# Altium schematic symbol library ubloxLib.SchLib: 110 symbols (part 3 of 4)
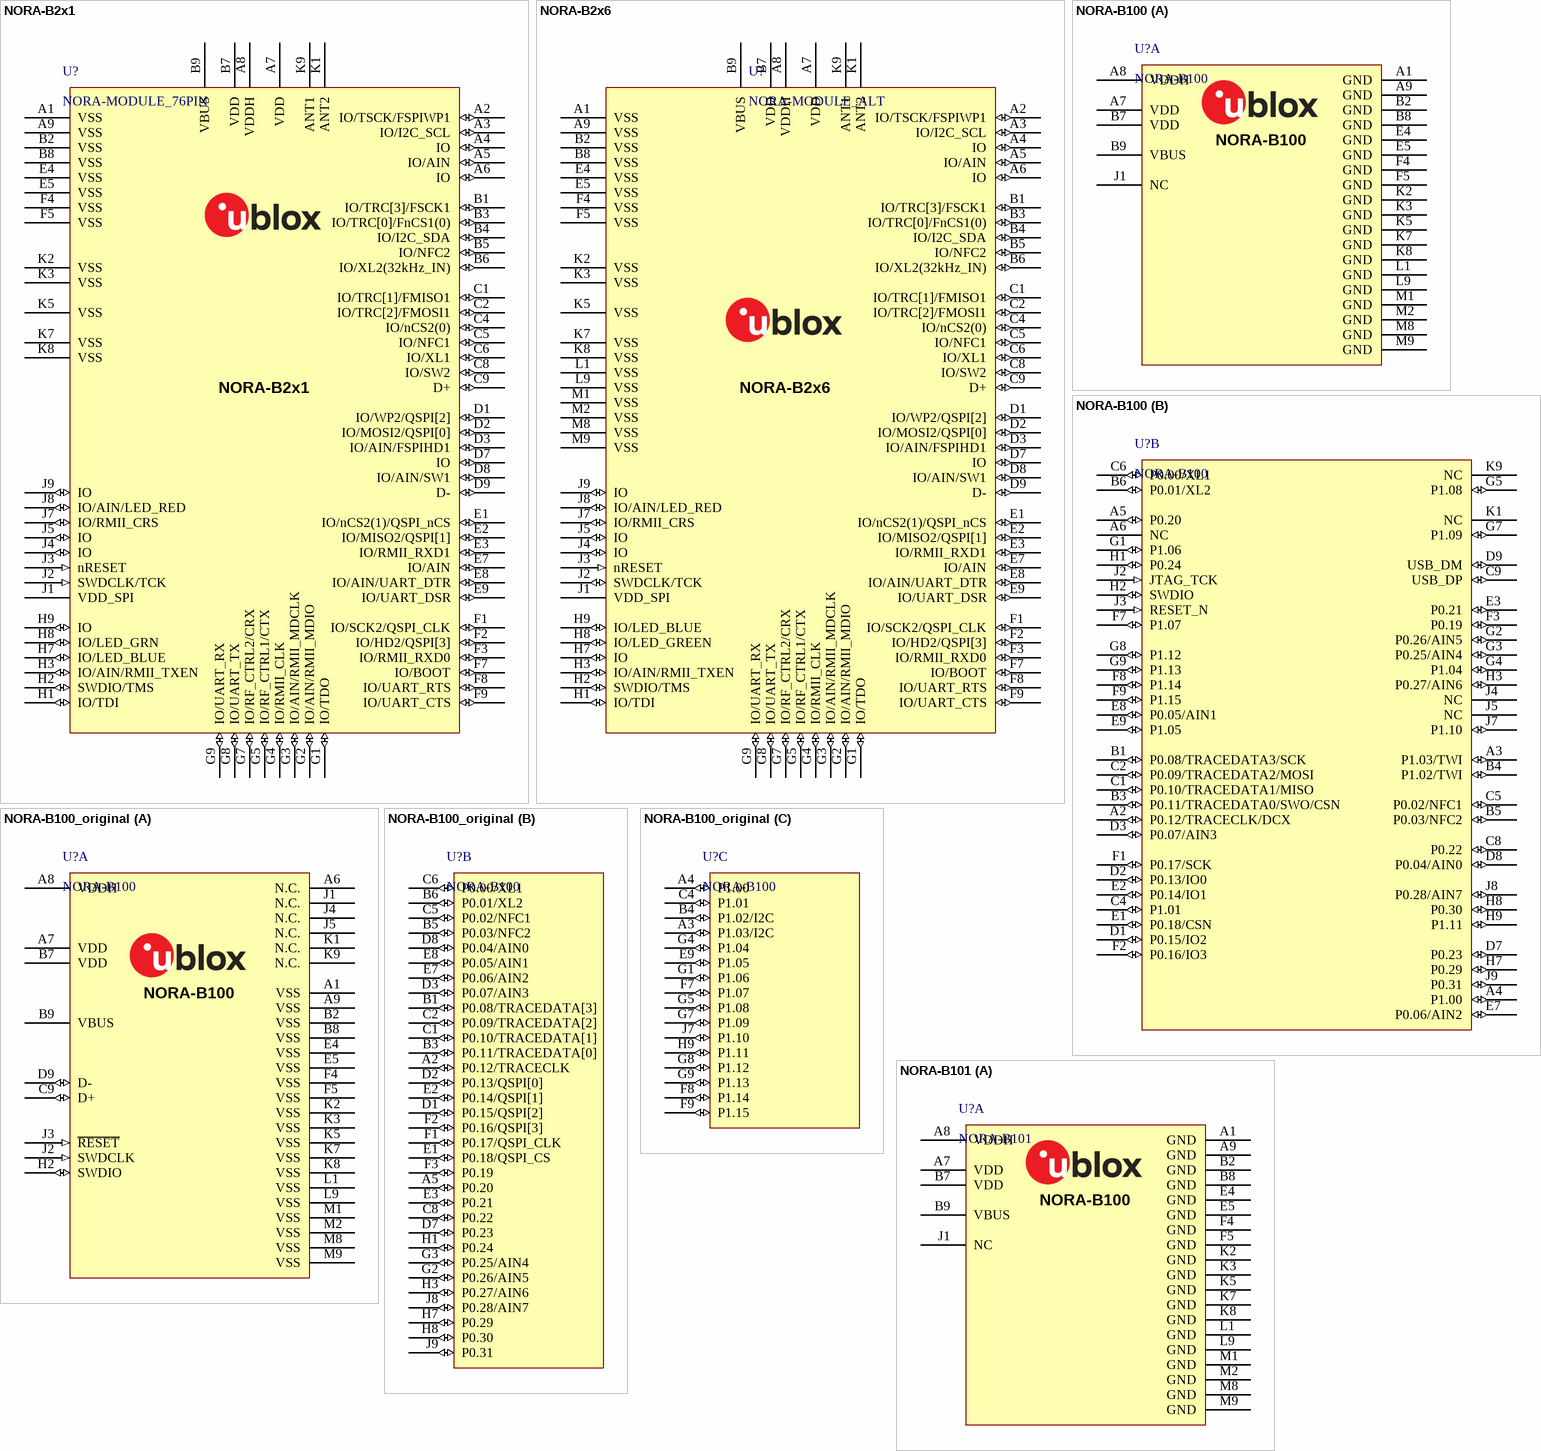
[diagram p25: symbols NORA-B2x1 to NORA-B101]

## NORA-B2x1
designator U?, comment NORA-MODULE_76PIN
Applicable for NORA-B201, NORA-B211, and NORA-B221
footprint NORA_LGA76R_1120X1040X190_MOD (NORA LGA.76pin ,1.1mm Pitch, 11.2mm x 10.4mm, to be used for modules)
pins: A1 VSS (power) "Ground", A2 IO/TSCK/FSPIWP1 (io) "Trace clock, Fast SPI WP, IO", A3 IO/I2C_SCL (io) "IO, I2C Clock SCL", A4 IO (io), A5 IO/AIN (io) "IO, should be Analog capable if possible", A6 IO (io), A7 VDD (power) "Primary power source and IO reference voltage", A8 VDDH (power) "High voltage power supply", A9 VSS (power) "Ground", B1 IO/TRC[3]/FSCK1 (io) "High-speed SPI Clock, Tracedata[3], IO", B2 VSS (power) "Ground", B3 IO/TRC[0]/FnCS1(0) (io) "High-speed SPI nCS, Tracedata[0], IO", B4 IO/I2C_SDA (io) "IO, I2C Data SDA", B5 IO/NFC2 (io) "NFC Antenna pin 2 or IO", B6 IO/XL2(32kHz_IN) (io) "32kHz XTAL, or 32kHz input, or IO", B7 VDD (power) "Primary power source and IO reference voltage", B8 VSS (power) "Ground", B9 VBUS (power) "+5V USB VBUS Input", C1 IO/TRC[1]/FMISO1 (io) "High-speed SPI MISO, Tracedata[1], IO", C2 IO/TRC[2]/FMOSI1 (io) "High-speed SPI MOSI, Tracedata[2], IO", C4 IO/nCS2(0) (io), C5 IO/NFC1 (io) "NFC Antenna pin 1 or IO", C6 IO/XL1 (io), C8 IO/SW2 (io) "IO, assigned to SW2 in u-connect", C9 D+ (io) "USB Data+", D1 IO/WP2/QSPI[2] (io) "IO, Secondary SPI WP QSPI 2 [2]", D2 IO/MOSI2/QSPI[0] (io) "IO, Secondary SPI MOSI, QSPI 2 [0]", D3 IO/AIN/FSPIHD1 (io) "IO, should be Analog capable if possible", D7 IO (io), D8 IO/AIN/SW1 (io) "IO, should be Analog capable if possible, assigned to SW1 in u-connect", D9 D- (io) "USB Data-", E1 IO/nCS2(1)/QSPI_nCS (io) "Secondary SPI chip select, QSPI 2 chip select, IO", E2 IO/MISO2/QSPI[1] (io) "IO, Secondary SPI MISO, QSPI 2 [1]", E3 IO/RMII_RXD1 (io) "Reduced media-independent interface RX data bit 1", E4 VSS (power) "Ground", E5 VSS (power) "Ground", E7 IO/AIN (io) "IO, should be Analog capable if possible", E8 IO/AIN/UART_DTR (io) "IO, should be Analog capable if possible, UART DTR", E9 IO/UART_DSR (io) "IO, UART DSR signal", F1 IO/SCK2/QSPI_CLK (io) "Secondary SPI Clock, QSPI 2 Clock, IO", F2 IO/HD2/QSPI[3] (io) "IO, Secondary SPI HD, QSPI 2 [2]", F3 IO/RMII_RXD0 (io) "IO/Reduced media-independent interface RX data bit 0", F4 VSS (power) "Ground", F5 VSS (power) "Ground", F7 IO/BOOT (io) "IO, may be used to initiate bootloader download", F8 IO/UART_RTS (io) "IO, Primary UART RTS output", F9 IO/UART_CTS (io) "IO, Primary UART CTS input", G1 IO/TDO (io) "IO, JTAG TDO signal", G2 IO/AIN/RMII_MDIO (io) "IO, IO, should be Analog capable if possible, RMII_MDIO", G3 IO/AIN/RMII_MDCLK (io) "IO, IO, should be Analog capable if possible, RMII_MDCLK", G4 IO/RMII_CLK (io) "IO, RMII_CLK", G5 IO/RF_CTRL1/CTX (io) "RF_CTRL1, used to enable Tx for internal FEM modules, IO", G7 IO/RF_CTRL2/CRX (io) "RF_CTRL2, used to enable Rx for internal FEM modules, IO", G8 IO/UART_TX (io) "IO, Primary UART transmit data output", G9 IO/UART_RX (io) "IO, Primary UART receive data input", H1 IO/TDI (io) "IO, JTAG TDI signal", H2 SWDIO/TMS (io) "Debug interface (SWD I/O or JTAG TMS)", H3 IO/AIN/RMII_TXEN (io) "IO, should be Analog capable if possible, RMII_TXEN", H7 IO/LED_BLUE (io) "IO, may be wired to Blue LED for u-connect-Xpress", H8 IO/LED_GRN (io) "IO, may be wired to Green LED for u-connect-Xpress", H9 IO (io), J1 VDD_SPI "Alternate IO reference voltage", J2 SWDCLK/TCK (in) "Debug Interface Clock Input", J3 nRESET (in), J4 IO (io), J5 IO (io), J7 IO/RMII_CRS (io) "IO, RMII_CRS", J8 IO/AIN/LED_RED (io) "IO, IO, should be Analog capable if possible, May be connected to Red LED for u-connectXpress", J9 IO (io), K1 ANT2 "Secondary RF Port", K2 VSS (power) "Ground", K3 VSS (power) "Ground", K5 VSS (power) "Ground", K7 VSS (power) "Ground", K8 VSS (power) "Ground", K9 ANT1 "Primary RF Port"

## NORA-B2x6
designator U?, comment NORA-MODULE_ALT
NORA-B206, NORA-B216, and NORA-B226; Manufacturer P/N: NORA; Part_Type: Module; Manufacturer: u-blox; Part Description: NORA MODULE FOOTPRINT; Body Size: 14.3 mm x 10.4 mm; Value: NORA; Part Number: NORA; Part Name: NORA; Height: 0
footprint NORA_LGA82R_1430X1040X190_ANT (NORA LGA, 82pin ,1.1mm Pitch, 14.3mm x 10.4mm x 1.9mm)
pins: A1 VSS (power) "Ground", A2 IO/TSCK/FSPIWP1 (io) "Trace clock, Fast SPI WP, IO", A3 IO/I2C_SCL (io) "IO, I2C Clock SCL", A4 IO (io), A5 IO/AIN (io) "IO, should be Analog capable if possible", A6 IO (io), A7 VDD (power) "Primary power source and IO reference voltage", A8 VDDH (power) "High voltage power supply", A9 VSS (power) "Ground", B1 IO/TRC[3]/FSCK1 (io) "High-speed SPI Clock, Tracedata[3], IO", B2 VSS (power) "Ground", B3 IO/TRC[0]/FnCS1(0) (io) "High-speed SPI nCS, Tracedata[0], IO", B4 IO/I2C_SDA (io) "IO, I2C Data SDA", B5 IO/NFC2 (io) "NFC Antenna pin 2 or IO", B6 IO/XL2(32kHz_IN) (io) "32kHz XTAL, or 32kHz input, or IO", B7 VDD (power) "Primary power source and IO reference voltage", B8 VSS (power) "Ground", B9 VBUS (power) "+5V USB VBUS Input", C1 IO/TRC[1]/FMISO1 (io) "High-speed SPI MISO, Tracedata[1], IO", C2 IO/TRC[2]/FMOSI1 (io) "High-speed SPI MOSI, Tracedata[2], IO", C4 IO/nCS2(0) (io), C5 IO/NFC1 (io) "NFC Antenna pin 1 or IO", C6 IO/XL1 (io), C8 IO/SW2 (io) "IO, assigned to SW2 in u-connect", C9 D+ (io) "USB Data+", D1 IO/WP2/QSPI[2] (io) "IO, Secondary SPI WP QSPI 2 [2]", D2 IO/MOSI2/QSPI[0] (io) "IO, Secondary SPI MOSI, QSPI 2 [0]", D3 IO/AIN/FSPIHD1 (io) "IO, should be Analog capable if possible", D7 IO (io), D8 IO/AIN/SW1 (io) "IO, should be Analog capable if possible, assigned to SW1 in u-connect", D9 D- (io) "USB Data-", E1 IO/nCS2(1)/QSPI_nCS (io) "Secondary SPI chip select, QSPI 2 chip select, IO", E2 IO/MISO2/QSPI[1] (io) "IO, Secondary SPI MISO, QSPI 2 [1]", E3 IO/RMII_RXD1 (io) "Reduced media-independent interface RX data bit 1", E4 VSS (power) "Ground", E5 VSS (power) "Ground", E7 IO/AIN (io) "IO, should be Analog capable if possible", E8 IO/AIN/UART_DTR (io) "IO, should be Analog capable if possible, UART DTR", E9 IO/UART_DSR (io) "IO, UART DSR signal", F1 IO/SCK2/QSPI_CLK (io) "Secondary SPI Clock, QSPI 2 Clock, IO", F2 IO/HD2/QSPI[3] (io) "IO, Secondary SPI HD, QSPI 2 [2]", F3 IO/RMII_RXD0 (io) "IO/Reduced media-independent interface RX data bit 0", F4 VSS (power) "Ground", F5 VSS (power) "Ground", F7 IO/BOOT (io) "IO, may be used to initiate bootloader download", F8 IO/UART_RTS (io) "IO, Primary UART RTS output", F9 IO/UART_CTS (io) "IO, Primary UART CTS input", G1 IO/TDO (io) "IO, JTAG TDO signal", G2 IO/AIN/RMII_MDIO (io) "IO, IO, should be Analog capable if possible, RMII_MDIO", G3 IO/AIN/RMII_MDCLK (io) "IO, IO, should be Analog capable if possible, RMII_MDCLK", G4 IO/RMII_CLK (io) "IO, RMII_CLK", G5 IO/RF_CTRL1/CTX (io) "RF_CTRL1, used to enable Tx for internal FEM modules, IO", G7 IO/RF_CTRL2/CRX (io) "RF_CTRL2, used to enable Rx for internal FEM modules, IO", G8 IO/UART_TX (io) "IO, Primary UART transmit data output", G9 IO/UART_RX (io) "IO, Primary UART receive data input", H1 IO/TDI (io) "IO, JTAG TDI signal", H2 SWDIO/TMS (io) "Debug interface (SWD I/O or JTAG TMS)", H3 IO/AIN/RMII_TXEN (io) "IO, should be Analog capable if possible, RMII_TXEN", H7 IO (io) "IO, may be wired to Blue LED for u-connect-Xpress", H8 IO/LED_GREEN (io) "IO, may be wired to Green LED for u-connect-Xpress", H9 IO/LED_BLUE (io) "IO", J1 VDD_SPI "Alternate IO reference voltage", J2 SWDCLK/TCK (io) "Debug Interface Clock Input", J3 nRESET (in), J4 IO (io), J5 IO (io), J7 IO/RMII_CRS (io) "IO, RMII_CRS", J8 IO/AIN/LED_RED (io) "IO, IO, should be Analog capable if possible, May be connected to Red LED for u-connectXpress", J9 IO (io), K1 ANT2 "Secondary RF Port", K2 VSS (power) "Ground", K3 VSS (power) "Ground", K5 VSS (power) "Ground", K7 VSS (power) "Ground", K8 VSS (power) "Ground", K9 ANT1 "Primary RF Port", L1 VSS (power) "Ground", L9 VSS (power) "Ground", M1 VSS (power) "Ground", M2 VSS (power) "Ground", M8 VSS (power) "Ground", M9 VSS (power) "Ground"

## NORA-B100
designator U?
u-blox NORA-B100 Bluetooth 5.2 LE module - dual core - U.FL; Manufacturer P/N: NORA-B101-00B; Part Number: NORA-B101; Part Description: Stand-alone Bluetooth low energy module - dual-core; Body Size: 14.3 mm x 10.4 mm; Value: NORA-W101; Part Name: NORA-B101; Part_Type: Module; Manufacturer: u-blox; Height: 1.8 mm
footprint NORA_LGA82R_1430X1040X180_UFL (NORA LGA, 82pin ,1.1mm Pitch, 14.3mm x 10.4mm)
part A pins: A1 GND (power), A7 VDD (power), A8 VDDH (power), A9 GND (power), B2 GND (power), B7 VDD (power), B8 GND (power), B9 VBUS (power), E4 GND (power), E5 GND (power), F4 GND (power), F5 GND (power), J1 NC, K2 GND (power), K3 GND (power), K5 GND (power), K7 GND (power), K8 GND (power), L1 GND (power), L9 GND (power), M1 GND (power), M2 GND (power), M8 GND (power), M9 GND (power)
part B pins: A2 P0.12/TRACECLK/DCX (io), A3 P1.03/TWI (io), A4 P1.00 (io), A5 P0.20 (io), A6 NC, B1 P0.08/TRACEDATA3/SCK (io), B3 P0.11/TRACEDATA0/SWO/CSN (io), B4 P1.02/TWI (io), B5 P0.03/NFC2 (io), B6 P0.01/XL2 (io), C1 P0.10/TRACEDATA1/MISO (io), C2 P0.09/TRACEDATA2/MOSI (io), C4 P1.01 (io), C5 P0.02/NFC1 (io), C6 P0.00/XL1 (io), C8 P0.22 (io), C9 USB_DP (io), D1 P0.15/IO2 (io), D2 P0.13/IO0 (io), D3 P0.07/AIN3 (io), D7 P0.23 (io), D8 P0.04/AIN0 (io), D9 USB_DM (io), E1 P0.18/CSN (io), E2 P0.14/IO1 (io), E3 P0.21 (io), E7 P0.06/AIN2 (io), E8 P0.05/AIN1 (io), E9 P1.05 (io), F1 P0.17/SCK (io), F2 P0.16/IO3 (io), F3 P0.19 (io), F7 P1.07 (io), F8 P1.14 (io), F9 P1.15 (io), G1 P1.06 (io), G2 P0.26/AIN5 (io), G3 P0.25/AIN4 (io), G4 P1.04 (io), G5 P1.08 (io), G7 P1.09 (io), G8 P1.12 (io), G9 P1.13 (io), H1 P0.24 (io), H2 SWDIO (io), H3 P0.27/AIN6 (io), H7 P0.29 (io), H8 P0.30 (io), H9 P1.11 (io), J2 JTAG_TCK (in), J3 RESET_N (in), J4 NC, J5 NC, J7 P1.10 (io), J8 P0.28/AIN7 (io), J9 P0.31 (io), K1 NC, K9 NC

## NORA-B100_original
designator U?, comment NORA-B100
u-blox NORA-B100 Bluetooth 5.2 LE module - dual core; Manufacturer P/N: NORA-B100-00B; Part Description: Stand-alone Bluetooth low energy module - dual core; Body Size: 14.3 mm x 10.4 mm; Part Number: NORA-B100; Part Name: NORA-B100; Part_Type: Module; Manufacturer: u-blox; Height: 1.8 mm; Value: NORA-B100
footprint NORA_LGA82R_1430X1040X180_UFL (NORA LGA, 82pin ,1.1mm Pitch, 14.3mm x 10.4mm)
part A pins: A1 VSS (power), A6 N.C. (hiz), A7 VDD (power), A8 VDDH (power), A9 VSS (power), B2 VSS (power), B7 VDD (power), B8 VSS (power), B9 VBUS (power), C9 D+ (io), D9 D- (io), E4 VSS (power), E5 VSS (power), F4 VSS (power), F5 VSS (power), H2 SWDIO (io), J1 N.C. (hiz), J2 SWDCLK (in), J3 ~{RESET} (in), J4 N.C. (hiz), J5 N.C. (hiz), K1 N.C. (hiz), K2 VSS (power), K3 VSS (power), K5 VSS (power), K7 VSS (power), K8 VSS (power), K9 N.C. (hiz), L1 VSS (power), L9 VSS (power), M1 VSS (power), M2 VSS (power), M8 VSS (power), M9 VSS (power)
part B pins: A2 P0.12/TRACECLK (io), A5 P0.20 (io), B1 P0.08/TRACEDATA[3] (io), B3 P0.11/TRACEDATA[0] (io), B5 P0.03/NFC2 (io), B6 P0.01/XL2 (io), C1 P0.10/TRACEDATA[1] (io), C2 P0.09/TRACEDATA[2] (io), C5 P0.02/NFC1 (io), C6 P0.00/XL1 (io), C8 P0.22 (io), D1 P0.15/QSPI[2] (io), D2 P0.13/QSPI[0] (io), D3 P0.07/AIN3 (io), D7 P0.23 (io), D8 P0.04/AIN0 (io), E1 P0.18/QSPI_CS (io), E2 P0.14/QSPI[1] (io), E3 P0.21 (io), E7 P0.06/AIN2 (io), E8 P0.05/AIN1 (io), F1 P0.17/QSPI_CLK (io), F2 P0.16/QSPI[3] (io), F3 P0.19 (io), G2 P0.26/AIN5 (io), G3 P0.25/AIN4 (io), H1 P0.24 (io), H3 P0.27/AIN6 (io), H7 P0.29 (io), H8 P0.30 (io), J8 P0.28/AIN7 (io), J9 P0.31 (io)
part C pins: A3 P1.03/I2C (io), A4 P1.00 (io), B4 P1.02/I2C (io), C4 P1.01 (io), E9 P1.05 (io), F7 P1.07 (io), F8 P1.14 (io), F9 P1.15 (io), G1 P1.06 (io), G4 P1.04 (io), G5 P1.08 (io), G7 P1.09 (io), G8 P1.12 (io), G9 P1.13 (io), H9 P1.11 (io), J7 P1.10 (io)

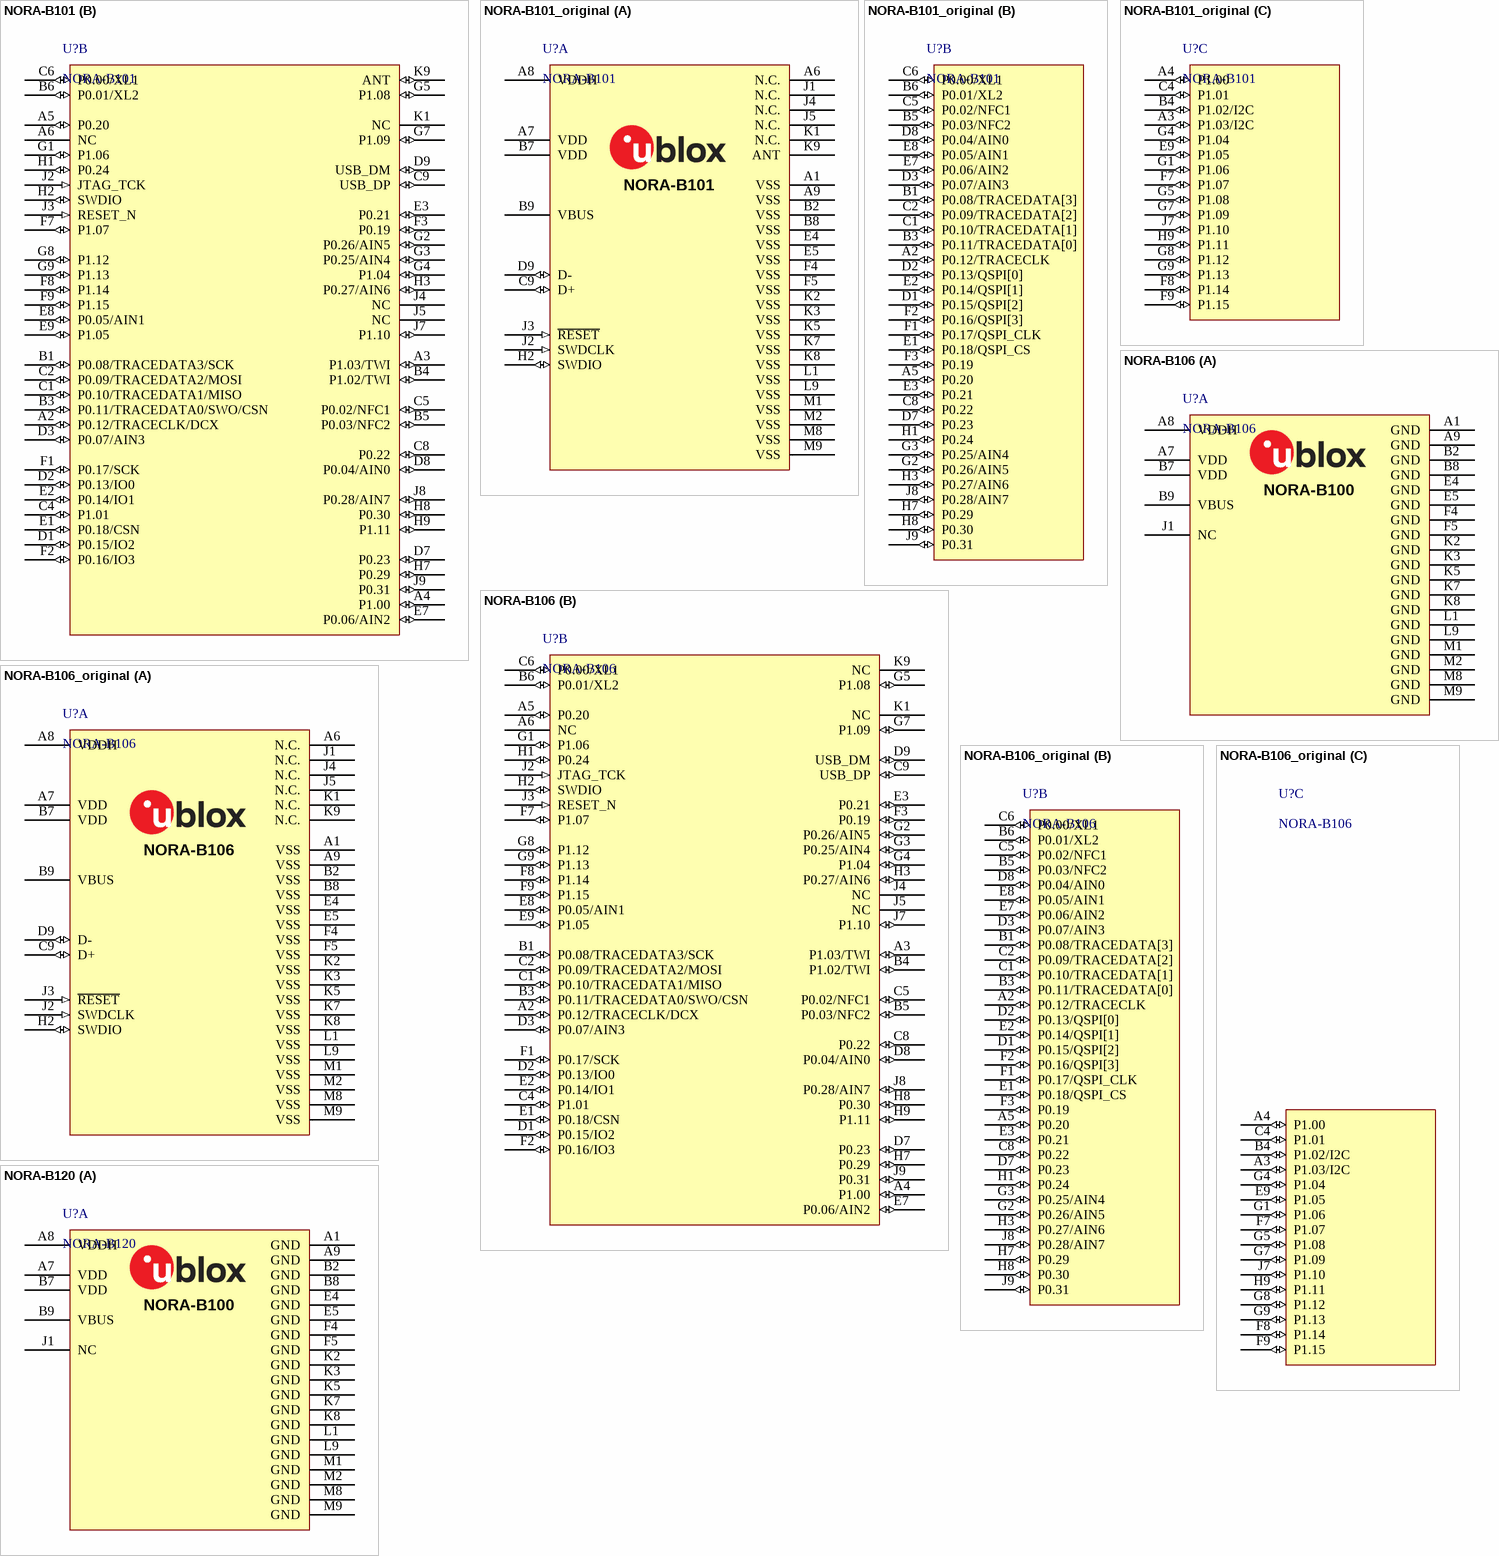
[diagram p15: symbols NORA-B101 to NORA-B120]

## NORA-B101
designator U?
u-blox NORA-B101 Bluetooth 5.2 LE module - dual core - antenna pin; Manufacturer P/N: NORA-B101-00B; Part Description: Stand-alone Bluetooth low energy module - dual-core; Body Size: 14.3 mm x 10.4 mm; Value: NORA-W101; Part Number: NORA-B101; Part Name: NORA-B101; Part_Type: Module; Manufacturer: u-blox; Height: 1.8 mm
footprint NORA_LGA82R_1430X1040X180_PIN (NORA LGA, 82pin ,1.1mm Pitch, 14.3mm x 10.4mm)
part A pins: A1 GND (power), A7 VDD (power), A8 VDDH (power), A9 GND (power), B2 GND (power), B7 VDD (power), B8 GND (power), B9 VBUS (power), E4 GND (power), E5 GND (power), F4 GND (power), F5 GND (power), J1 NC, K2 GND (power), K3 GND (power), K5 GND (power), K7 GND (power), K8 GND (power), L1 GND (power), L9 GND (power), M1 GND (power), M2 GND (power), M8 GND (power), M9 GND (power)
part B pins: A2 P0.12/TRACECLK/DCX (io), A3 P1.03/TWI (io), A4 P1.00 (io), A5 P0.20 (io), A6 NC, B1 P0.08/TRACEDATA3/SCK (io), B3 P0.11/TRACEDATA0/SWO/CSN (io), B4 P1.02/TWI (io), B5 P0.03/NFC2 (io), B6 P0.01/XL2 (io), C1 P0.10/TRACEDATA1/MISO (io), C2 P0.09/TRACEDATA2/MOSI (io), C4 P1.01 (io), C5 P0.02/NFC1 (io), C6 P0.00/XL1 (io), C8 P0.22 (io), C9 USB_DP (io), D1 P0.15/IO2 (io), D2 P0.13/IO0 (io), D3 P0.07/AIN3 (io), D7 P0.23 (io), D8 P0.04/AIN0 (io), D9 USB_DM (io), E1 P0.18/CSN (io), E2 P0.14/IO1 (io), E3 P0.21 (io), E7 P0.06/AIN2 (io), E8 P0.05/AIN1 (io), E9 P1.05 (io), F1 P0.17/SCK (io), F2 P0.16/IO3 (io), F3 P0.19 (io), F7 P1.07 (io), F8 P1.14 (io), F9 P1.15 (io), G1 P1.06 (io), G2 P0.26/AIN5 (io), G3 P0.25/AIN4 (io), G4 P1.04 (io), G5 P1.08 (io), G7 P1.09 (io), G8 P1.12 (io), G9 P1.13 (io), H1 P0.24 (io), H2 SWDIO (io), H3 P0.27/AIN6 (io), H7 P0.29 (io), H8 P0.30 (io), H9 P1.11 (io), J2 JTAG_TCK (in), J3 RESET_N (in), J4 NC, J5 NC, J7 P1.10 (io), J8 P0.28/AIN7 (io), J9 P0.31 (io), K1 NC, K9 ANT (io)
part A text: NORA-B100

## NORA-B101_original
designator U?, comment NORA-B101
u-blox NORA-B101 Bluetooth 5.2 LE module - dual core; Manufacturer P/N: NORA-B101-00B; Part Description: Stand-alone Bluetooth low energy module - dual-core; Body Size: 14.3 mm x 10.4 mm; Part Number: NORA-B101; Part Name: NORA-B101; Part_Type: Module; Manufacturer: u-blox; Height: 1.8 mm; Value: NORA-B101
footprint NORA_LGA82R_1430X1040X180_PIN (NORA LGA, 82pin ,1.1mm Pitch, 14.3mm x 10.4mm)
part A pins: A1 VSS (power), A6 N.C. (hiz), A7 VDD (power), A8 VDDH (power), A9 VSS (power), B2 VSS (power), B7 VDD (power), B8 VSS (power), B9 VBUS (power), C9 D+ (io), D9 D- (io), E4 VSS (power), E5 VSS (power), F4 VSS (power), F5 VSS (power), H2 SWDIO (io), J1 N.C. (hiz), J2 SWDCLK (in), J3 ~{RESET} (in), J4 N.C. (hiz), J5 N.C. (hiz), K1 N.C. (hiz), K2 VSS (power), K3 VSS (power), K5 VSS (power), K7 VSS (power), K8 VSS (power), K9 ANT (hiz), L1 VSS (power), L9 VSS (power), M1 VSS (power), M2 VSS (power), M8 VSS (power), M9 VSS (power)
part B pins: A2 P0.12/TRACECLK (io), A5 P0.20 (io), B1 P0.08/TRACEDATA[3] (io), B3 P0.11/TRACEDATA[0] (io), B5 P0.03/NFC2 (io), B6 P0.01/XL2 (io), C1 P0.10/TRACEDATA[1] (io), C2 P0.09/TRACEDATA[2] (io), C5 P0.02/NFC1 (io), C6 P0.00/XL1 (io), C8 P0.22 (io), D1 P0.15/QSPI[2] (io), D2 P0.13/QSPI[0] (io), D3 P0.07/AIN3 (io), D7 P0.23 (io), D8 P0.04/AIN0 (io), E1 P0.18/QSPI_CS (io), E2 P0.14/QSPI[1] (io), E3 P0.21 (io), E7 P0.06/AIN2 (io), E8 P0.05/AIN1 (io), F1 P0.17/QSPI_CLK (io), F2 P0.16/QSPI[3] (io), F3 P0.19 (io), G2 P0.26/AIN5 (io), G3 P0.25/AIN4 (io), H1 P0.24 (io), H3 P0.27/AIN6 (io), H7 P0.29 (io), H8 P0.30 (io), J8 P0.28/AIN7 (io), J9 P0.31 (io)
part C pins: A3 P1.03/I2C (io), A4 P1.00 (io), B4 P1.02/I2C (io), C4 P1.01 (io), E9 P1.05 (io), F7 P1.07 (io), F8 P1.14 (io), F9 P1.15 (io), G1 P1.06 (io), G4 P1.04 (io), G5 P1.08 (io), G7 P1.09 (io), G8 P1.12 (io), G9 P1.13 (io), H9 P1.11 (io), J7 P1.10 (io)

## NORA-B106
designator U?
u-blox NORA-B106 Bluetooth 5.2 LE module - dual core - PCB antenna; Manufacturer P/N: NORA-B101-00B; Part Number: NORA-B101; Part Description: Stand-alone Bluetooth low energy module - dual-core; Body Size: 14.3 mm x 10.4 mm; Value: NORA-W101; Part Name: NORA-B101; Part_Type: Module; Manufacturer: u-blox; Height: 1.8 mm
footprint NORA_LGA82R_1430X1040X180_ANT (NORA LGA, 82pin ,1.1mm Pitch, 14.3mm x 10.4mm)
part A pins: A1 GND (power), A7 VDD (power), A8 VDDH (power), A9 GND (power), B2 GND (power), B7 VDD (power), B8 GND (power), B9 VBUS (power), E4 GND (power), E5 GND (power), F4 GND (power), F5 GND (power), J1 NC, K2 GND (power), K3 GND (power), K5 GND (power), K7 GND (power), K8 GND (power), L1 GND (power), L9 GND (power), M1 GND (power), M2 GND (power), M8 GND (power), M9 GND (power)
part B pins: A2 P0.12/TRACECLK/DCX (io), A3 P1.03/TWI (io), A4 P1.00 (io), A5 P0.20 (io), A6 NC, B1 P0.08/TRACEDATA3/SCK (io), B3 P0.11/TRACEDATA0/SWO/CSN (io), B4 P1.02/TWI (io), B5 P0.03/NFC2 (io), B6 P0.01/XL2 (io), C1 P0.10/TRACEDATA1/MISO (io), C2 P0.09/TRACEDATA2/MOSI (io), C4 P1.01 (io), C5 P0.02/NFC1 (io), C6 P0.00/XL1 (io), C8 P0.22 (io), C9 USB_DP (io), D1 P0.15/IO2 (io), D2 P0.13/IO0 (io), D3 P0.07/AIN3 (io), D7 P0.23 (io), D8 P0.04/AIN0 (io), D9 USB_DM (io), E1 P0.18/CSN (io), E2 P0.14/IO1 (io), E3 P0.21 (io), E7 P0.06/AIN2 (io), E8 P0.05/AIN1 (io), E9 P1.05 (io), F1 P0.17/SCK (io), F2 P0.16/IO3 (io), F3 P0.19 (io), F7 P1.07 (io), F8 P1.14 (io), F9 P1.15 (io), G1 P1.06 (io), G2 P0.26/AIN5 (io), G3 P0.25/AIN4 (io), G4 P1.04 (io), G5 P1.08 (io), G7 P1.09 (io), G8 P1.12 (io), G9 P1.13 (io), H1 P0.24 (io), H2 SWDIO (io), H3 P0.27/AIN6 (io), H7 P0.29 (io), H8 P0.30 (io), H9 P1.11 (io), J2 JTAG_TCK (in), J3 RESET_N (in), J4 NC, J5 NC, J7 P1.10 (io), J8 P0.28/AIN7 (io), J9 P0.31 (io), K1 NC, K9 NC
part A text: NORA-B100

## NORA-B106_original
designator U?, comment NORA-B106
u-blox NORA-B106 Bluetooth 5.2 LE module - dual core; Manufacturer P/N: NORA-B106-00B; Part Description: Stand-alone Bluetooth low energy module - dual core; Body Size: 14.3 mm x 10.4 mm; Part Number: NORA-B106; Part Name: NORA-B106; Part_Type: Module; Manufacturer: u-blox; Height: 1.8 mm; Value: NORA-B106
footprint NORA_LGA82R_1430X1040X180_ANT (NORA LGA, 82pin ,1.1mm Pitch, 14.3mm x 10.4mm)
part A pins: A1 VSS (power), A6 N.C. (hiz), A7 VDD (power), A8 VDDH (power), A9 VSS (power), B2 VSS (power), B7 VDD (power), B8 VSS (power), B9 VBUS (power), C9 D+ (io), D9 D- (io), E4 VSS (power), E5 VSS (power), F4 VSS (power), F5 VSS (power), H2 SWDIO (io), J1 N.C. (hiz), J2 SWDCLK (in), J3 ~{RESET} (in), J4 N.C. (hiz), J5 N.C. (hiz), K1 N.C. (hiz), K2 VSS (power), K3 VSS (power), K5 VSS (power), K7 VSS (power), K8 VSS (power), K9 N.C. (hiz), L1 VSS (power), L9 VSS (power), M1 VSS (power), M2 VSS (power), M8 VSS (power), M9 VSS (power)
part B pins: A2 P0.12/TRACECLK (io), A5 P0.20 (io), B1 P0.08/TRACEDATA[3] (io), B3 P0.11/TRACEDATA[0] (io), B5 P0.03/NFC2 (io), B6 P0.01/XL2 (io), C1 P0.10/TRACEDATA[1] (io), C2 P0.09/TRACEDATA[2] (io), C5 P0.02/NFC1 (io), C6 P0.00/XL1 (io), C8 P0.22 (io), D1 P0.15/QSPI[2] (io), D2 P0.13/QSPI[0] (io), D3 P0.07/AIN3 (io), D7 P0.23 (io), D8 P0.04/AIN0 (io), E1 P0.18/QSPI_CS (io), E2 P0.14/QSPI[1] (io), E3 P0.21 (io), E7 P0.06/AIN2 (io), E8 P0.05/AIN1 (io), F1 P0.17/QSPI_CLK (io), F2 P0.16/QSPI[3] (io), F3 P0.19 (io), G2 P0.26/AIN5 (io), G3 P0.25/AIN4 (io), H1 P0.24 (io), H3 P0.27/AIN6 (io), H7 P0.29 (io), H8 P0.30 (io), J8 P0.28/AIN7 (io), J9 P0.31 (io)
part C pins: A3 P1.03/I2C (io), A4 P1.00 (io), B4 P1.02/I2C (io), C4 P1.01 (io), E9 P1.05 (io), F7 P1.07 (io), F8 P1.14 (io), F9 P1.15 (io), G1 P1.06 (io), G4 P1.04 (io), G5 P1.08 (io), G7 P1.09 (io), G8 P1.12 (io), G9 P1.13 (io), H9 P1.11 (io), J7 P1.10 (io)

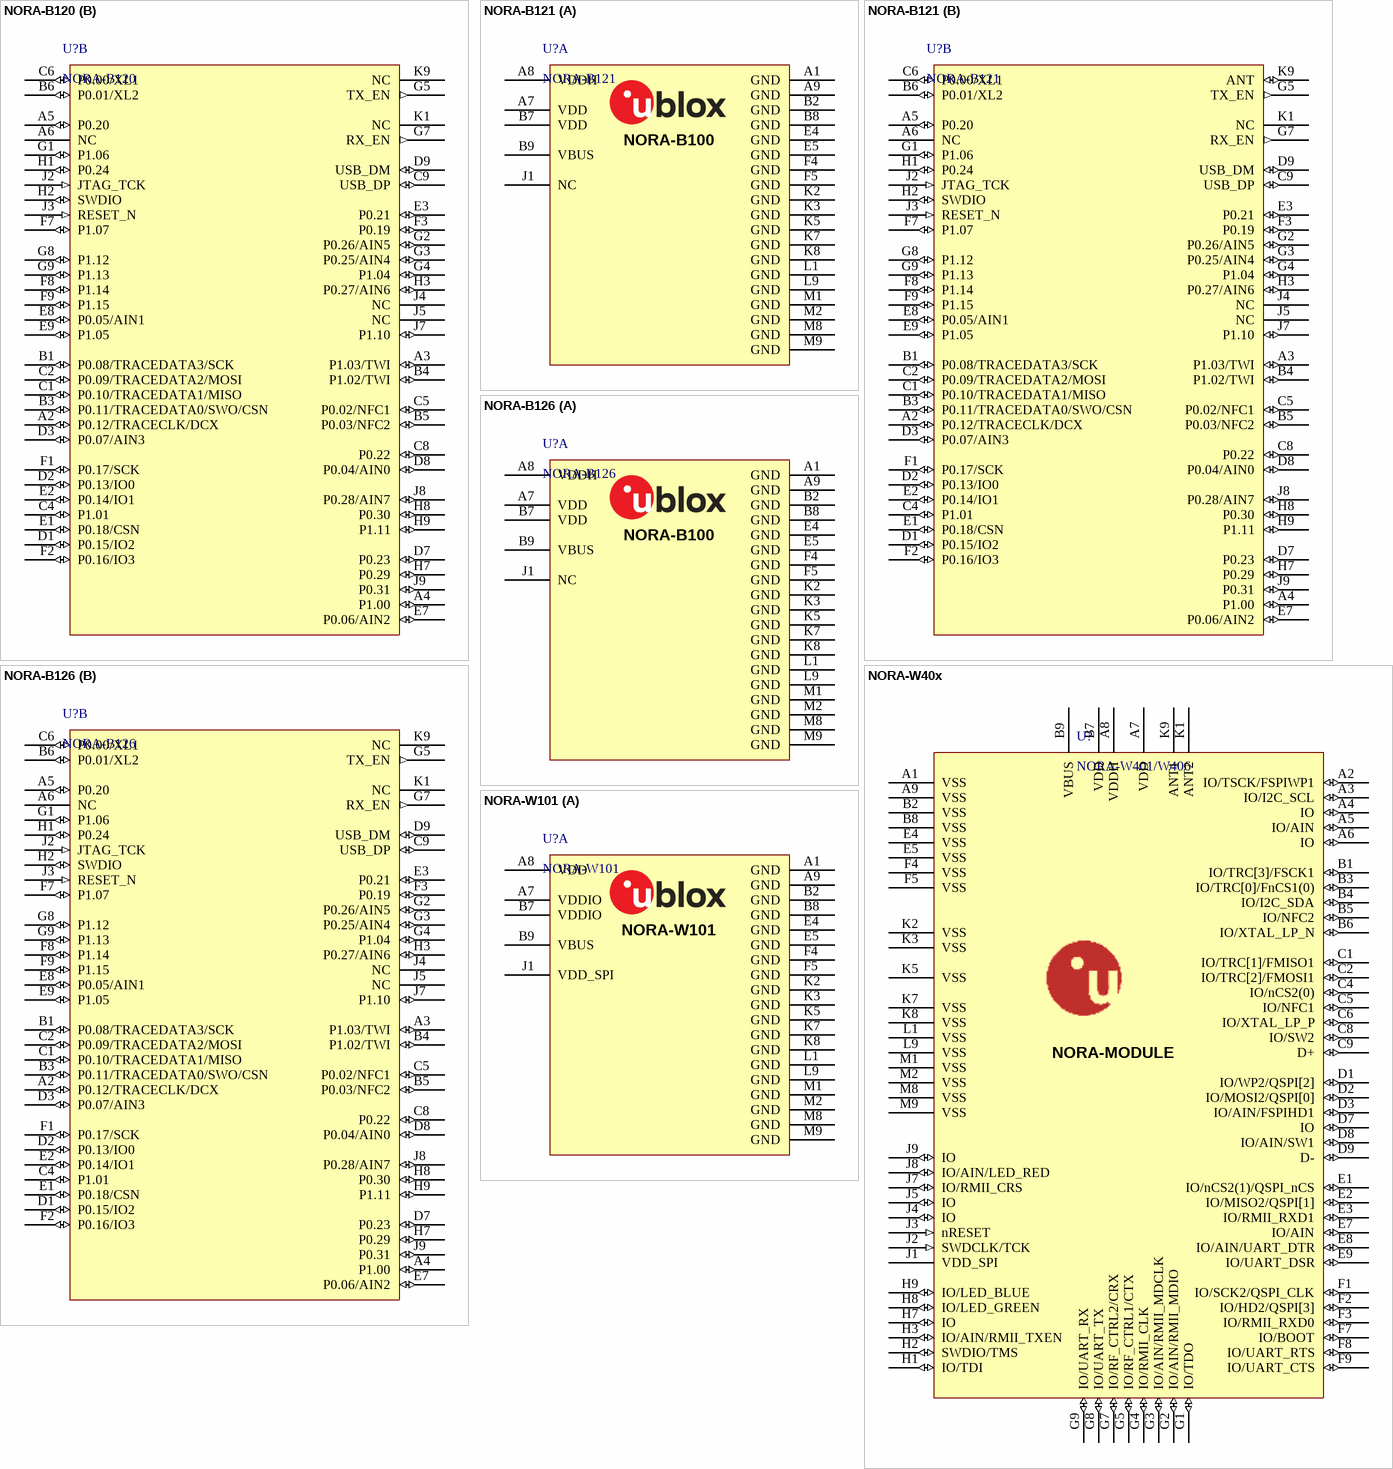
[diagram p16: symbols NORA-B120 to NORA-W101]

## NORA-B120
designator U?
u-blox NORA-B120 Bluetooth 5.2 LE module - dual core - FEM - U.FL; Manufacturer P/N: NORA-B101-00B; Part Number: NORA-B101; Part Description: Stand-alone Bluetooth low energy module - dual-core; Body Size: 14.3 mm x 10.4 mm; Value: NORA-W101; Part Name: NORA-B101; Part_Type: Module; Manufacturer: u-blox; Height: 1.8 mm
footprint NORA_LGA82R_1430X1040X185_UFL (NORA LGA, 82pin ,1.1mm Pitch, 14.3mm x 10.4mm, for NORA-B120)
part A pins: A1 GND (power), A7 VDD (power), A8 VDDH (power), A9 GND (power), B2 GND (power), B7 VDD (power), B8 GND (power), B9 VBUS (power), E4 GND (power), E5 GND (power), F4 GND (power), F5 GND (power), J1 NC, K2 GND (power), K3 GND (power), K5 GND (power), K7 GND (power), K8 GND (power), L1 GND (power), L9 GND (power), M1 GND (power), M2 GND (power), M8 GND (power), M9 GND (power)
part B pins: A2 P0.12/TRACECLK/DCX (io), A3 P1.03/TWI (io), A4 P1.00 (io), A5 P0.20 (io), A6 NC, B1 P0.08/TRACEDATA3/SCK (io), B3 P0.11/TRACEDATA0/SWO/CSN (io), B4 P1.02/TWI (io), B5 P0.03/NFC2 (io), B6 P0.01/XL2 (io), C1 P0.10/TRACEDATA1/MISO (io), C2 P0.09/TRACEDATA2/MOSI (io), C4 P1.01 (io), C5 P0.02/NFC1 (io), C6 P0.00/XL1 (io), C8 P0.22 (io), C9 USB_DP (io), D1 P0.15/IO2 (io), D2 P0.13/IO0 (io), D3 P0.07/AIN3 (io), D7 P0.23 (io), D8 P0.04/AIN0 (io), D9 USB_DM (io), E1 P0.18/CSN (io), E2 P0.14/IO1 (io), E3 P0.21 (io), E7 P0.06/AIN2 (io), E8 P0.05/AIN1 (io), E9 P1.05 (io), F1 P0.17/SCK (io), F2 P0.16/IO3 (io), F3 P0.19 (io), F7 P1.07 (io), F8 P1.14 (io), F9 P1.15 (io), G1 P1.06 (io), G2 P0.26/AIN5 (io), G3 P0.25/AIN4 (io), G4 P1.04 (io), G5 TX_EN (out), G7 RX_EN (out), G8 P1.12 (io), G9 P1.13 (io), H1 P0.24 (io), H2 SWDIO (io), H3 P0.27/AIN6 (io), H7 P0.29 (io), H8 P0.30 (io), H9 P1.11 (io), J2 JTAG_TCK (in), J3 RESET_N (in), J4 NC, J5 NC, J7 P1.10 (io), J8 P0.28/AIN7 (io), J9 P0.31 (io), K1 NC, K9 NC
part A text: NORA-B100

## NORA-B121
designator U?
u-blox NORA-B121 Bluetooth 5.2 LE module - dual core - FEM - antenna pin; Manufacturer P/N: NORA-B101-00B; Part Number: NORA-B101; Part Description: Stand-alone Bluetooth low energy module - dual-core; Body Size: 14.3 mm x 10.4 mm; Value: NORA-W101; Part Name: NORA-B101; Part_Type: Module; Manufacturer: u-blox; Height: 1.8 mm
footprint NORA_LGA82R_1430X1040X185_PIN (NORA LGA, 82pin ,1.1mm Pitch, 14.3mm x 10.4mm, for NORA-B121)
part A pins: A1 GND (power), A7 VDD (power), A8 VDDH (power), A9 GND (power), B2 GND (power), B7 VDD (power), B8 GND (power), B9 VBUS (power), E4 GND (power), E5 GND (power), F4 GND (power), F5 GND (power), J1 NC, K2 GND (power), K3 GND (power), K5 GND (power), K7 GND (power), K8 GND (power), L1 GND (power), L9 GND (power), M1 GND (power), M2 GND (power), M8 GND (power), M9 GND (power)
part B pins: A2 P0.12/TRACECLK/DCX (io), A3 P1.03/TWI (io), A4 P1.00 (io), A5 P0.20 (io), A6 NC, B1 P0.08/TRACEDATA3/SCK (io), B3 P0.11/TRACEDATA0/SWO/CSN (io), B4 P1.02/TWI (io), B5 P0.03/NFC2 (io), B6 P0.01/XL2 (io), C1 P0.10/TRACEDATA1/MISO (io), C2 P0.09/TRACEDATA2/MOSI (io), C4 P1.01 (io), C5 P0.02/NFC1 (io), C6 P0.00/XL1 (io), C8 P0.22 (io), C9 USB_DP (io), D1 P0.15/IO2 (io), D2 P0.13/IO0 (io), D3 P0.07/AIN3 (io), D7 P0.23 (io), D8 P0.04/AIN0 (io), D9 USB_DM (io), E1 P0.18/CSN (io), E2 P0.14/IO1 (io), E3 P0.21 (io), E7 P0.06/AIN2 (io), E8 P0.05/AIN1 (io), E9 P1.05 (io), F1 P0.17/SCK (io), F2 P0.16/IO3 (io), F3 P0.19 (io), F7 P1.07 (io), F8 P1.14 (io), F9 P1.15 (io), G1 P1.06 (io), G2 P0.26/AIN5 (io), G3 P0.25/AIN4 (io), G4 P1.04 (io), G5 TX_EN (out), G7 RX_EN (out), G8 P1.12 (io), G9 P1.13 (io), H1 P0.24 (io), H2 SWDIO (io), H3 P0.27/AIN6 (io), H7 P0.29 (io), H8 P0.30 (io), H9 P1.11 (io), J2 JTAG_TCK (in), J3 RESET_N (in), J4 NC, J5 NC, J7 P1.10 (io), J8 P0.28/AIN7 (io), J9 P0.31 (io), K1 NC, K9 ANT (io)
part A text: NORA-B100

## NORA-B126
designator U?
u-blox NORA-B126 Bluetooth 5.2 LE module - dual core - FEM - PCB antenna; Manufacturer P/N: NORA-B101-00B; Part Number: NORA-B101; Part Description: Stand-alone Bluetooth low energy module - dual-core; Body Size: 14.3 mm x 10.4 mm; Value: NORA-W101; Part Name: NORA-B101; Part_Type: Module; Manufacturer: u-blox; Height: 1.8 mm
footprint NORA_LGA82R_1430X1040X185_ANT (NORA LGA, 82pin ,1.1mm Pitch, 14.3mm x 10.4mm, for NORA-B126)
part A pins: A1 GND (power), A7 VDD (power), A8 VDDH (power), A9 GND (power), B2 GND (power), B7 VDD (power), B8 GND (power), B9 VBUS (power), E4 GND (power), E5 GND (power), F4 GND (power), F5 GND (power), J1 NC, K2 GND (power), K3 GND (power), K5 GND (power), K7 GND (power), K8 GND (power), L1 GND (power), L9 GND (power), M1 GND (power), M2 GND (power), M8 GND (power), M9 GND (power)
part B pins: A2 P0.12/TRACECLK/DCX (io), A3 P1.03/TWI (io), A4 P1.00 (io), A5 P0.20 (io), A6 NC, B1 P0.08/TRACEDATA3/SCK (io), B3 P0.11/TRACEDATA0/SWO/CSN (io), B4 P1.02/TWI (io), B5 P0.03/NFC2 (io), B6 P0.01/XL2 (io), C1 P0.10/TRACEDATA1/MISO (io), C2 P0.09/TRACEDATA2/MOSI (io), C4 P1.01 (io), C5 P0.02/NFC1 (io), C6 P0.00/XL1 (io), C8 P0.22 (io), C9 USB_DP (io), D1 P0.15/IO2 (io), D2 P0.13/IO0 (io), D3 P0.07/AIN3 (io), D7 P0.23 (io), D8 P0.04/AIN0 (io), D9 USB_DM (io), E1 P0.18/CSN (io), E2 P0.14/IO1 (io), E3 P0.21 (io), E7 P0.06/AIN2 (io), E8 P0.05/AIN1 (io), E9 P1.05 (io), F1 P0.17/SCK (io), F2 P0.16/IO3 (io), F3 P0.19 (io), F7 P1.07 (io), F8 P1.14 (io), F9 P1.15 (io), G1 P1.06 (io), G2 P0.26/AIN5 (io), G3 P0.25/AIN4 (io), G4 P1.04 (io), G5 TX_EN (out), G7 RX_EN (out), G8 P1.12 (io), G9 P1.13 (io), H1 P0.24 (io), H2 SWDIO (io), H3 P0.27/AIN6 (io), H7 P0.29 (io), H8 P0.30 (io), H9 P1.11 (io), J2 JTAG_TCK (in), J3 RESET_N (in), J4 NC, J5 NC, J7 P1.10 (io), J8 P0.28/AIN7 (io), J9 P0.31 (io), K1 NC, K9 NC
part A text: NORA-B100

## NORA-W40x
designator U?, comment NORA-W401/W406
u-blox NORA module generic symbol; Part Description: NORA MODULE FOOTPRINT; Body Size: 14.3 mm x 10.4 mm; Manufacturer P/N: NORA; Part Number: NORA; Part Name: NORA; Part_Type: Module; Manufacturer: u-blox; Height: 0; Value: NORA
footprint NORA_LGA82R_1430X1040X180_PIN (NORA LGA, 82pin ,1.1mm Pitch, 14.3mm x 10.4mm)
footprint NORA_LGA82R_1430X1040X180_ANT (NORA LGA, 82pin ,1.1mm Pitch, 14.3mm x 10.4mm)
pins: A1 VSS (power) "Ground", A2 IO/TSCK/FSPIWP1 (io) "Trace clock, Fast SPI WP, IO", A3 IO/I2C_SCL (io) "IO, I2C Clock SCL", A4 IO (io), A5 IO/AIN (io) "IO, should be Analog capable if possible", A6 IO (io), A7 VDD (power) "Primary power source and IO reference voltage", A8 VDDH (power) "High voltage power supply", A9 VSS (power) "Ground", B1 IO/TRC[3]/FSCK1 (io) "High-speed SPI Clock, Tracedata[3], IO", B2 VSS (power) "Ground", B3 IO/TRC[0]/FnCS1(0) (io) "High-speed SPI nCS, Tracedata[0], IO", B4 IO/I2C_SDA (io) "IO, I2C Data SDA", B5 IO/NFC2 (io) "NFC Antenna pin 2 or IO", B6 IO/XTAL_LP_N (io) "32kHz XTAL, or 32kHz input, or IO", B7 VDD (power) "Primary power source and IO reference voltage", B8 VSS (power) "Ground", B9 VBUS (power) "+5V USB VBUS Input", C1 IO/TRC[1]/FMISO1 (io) "High-speed SPI MISO, Tracedata[1], IO", C2 IO/TRC[2]/FMOSI1 (io) "High-speed SPI MOSI, Tracedata[2], IO", C4 IO/nCS2(0) (io), C5 IO/NFC1 (io) "NFC Antenna pin 1 or IO", C6 IO/XTAL_LP_P (io), C8 IO/SW2 (io) "IO, assigned to SW2 in u-connect", C9 D+ (io) "USB Data+", D1 IO/WP2/QSPI[2] (io) "IO, Secondary SPI WP QSPI 2 [2]", D2 IO/MOSI2/QSPI[0] (io) "IO, Secondary SPI MOSI, QSPI 2 [0]", D3 IO/AIN/FSPIHD1 (io) "IO, should be Analog capable if possible", D7 IO (io), D8 IO/AIN/SW1 (io) "IO, should be Analog capable if possible, assigned to SW1 in u-connect", D9 D- (io) "USB Data-", E1 IO/nCS2(1)/QSPI_nCS (io) "Secondary SPI chip select, QSPI 2 chip select, IO", E2 IO/MISO2/QSPI[1] (io) "IO, Secondary SPI MISO, QSPI 2 [1]", E3 IO/RMII_RXD1 (io) "Reduced media-independent interface RX data bit 1", E4 VSS (power) "Ground", E5 VSS (power) "Ground", E7 IO/AIN (io) "IO, should be Analog capable if possible", E8 IO/AIN/UART_DTR (io) "IO, should be Analog capable if possible, UART DTR", E9 IO/UART_DSR (io) "IO, UART DSR signal", F1 IO/SCK2/QSPI_CLK (io) "Secondary SPI Clock, QSPI 2 Clock, IO", F2 IO/HD2/QSPI[3] (io) "IO, Secondary SPI HD, QSPI 2 [2]", F3 IO/RMII_RXD0 (io) "IO/Reduced media-independent interface RX data bit 0", F4 VSS (power) "Ground", F5 VSS (power) "Ground", F7 IO/BOOT (io) "IO, may be used to initiate bootloader download", F8 IO/UART_RTS (io) "IO, Primary UART RTS output", F9 IO/UART_CTS (io) "IO, Primary UART CTS input", G1 IO/TDO (io) "IO, JTAG TDO signal", G2 IO/AIN/RMII_MDIO (io) "IO, IO, should be Analog capable if possible, RMII_MDIO", G3 IO/AIN/RMII_MDCLK (io) "IO, IO, should be Analog capable if possible, RMII_MDCLK", G4 IO/RMII_CLK (io) "IO, RMII_CLK", G5 IO/RF_CTRL1/CTX (io) "RF_CTRL1, used to enable Tx for internal FEM modules, IO", G7 IO/RF_CTRL2/CRX (io) "RF_CTRL2, used to enable Rx for internal FEM modules, IO", G8 IO/UART_TX (io) "IO, Primary UART transmit data output", G9 IO/UART_RX (io) "IO, Primary UART receive data input", H1 IO/TDI (io) "IO, JTAG TDI signal", H2 SWDIO/TMS (io) "Debug interface (SWD I/O or JTAG TMS)", H3 IO/AIN/RMII_TXEN (io) "IO, should be Analog capable if possible, RMII_TXEN", H7 IO (io) "IO, may be wired to Blue LED for u-connect-Xpress", H8 IO/LED_GREEN (io) "IO, may be wired to Green LED for u-connect-Xpress", H9 IO/LED_BLUE (io) "IO", J1 VDD_SPI "Alternate IO reference voltage", J2 SWDCLK/TCK (in) "Debug Interface Clock Input", J3 nRESET (in), J4 IO (io), J5 IO (io), J7 IO/RMII_CRS (io) "IO, RMII_CRS", J8 IO/AIN/LED_RED (io) "IO, IO, should be Analog capable if possible, May be connected to Red LED for u-connectXpress", J9 IO (io), K1 ANT2 "Secondary RF Port", K2 VSS (power) "Ground", K3 VSS (power) "Ground", K5 VSS (power) "Ground", K7 VSS (power) "Ground", K8 VSS (power) "Ground", K9 ANT1 "Primary RF Port", L1 VSS (power) "Ground", L9 VSS (power) "Ground", M1 VSS (power) "Ground", M2 VSS (power) "Ground", M8 VSS (power) "Ground", M9 VSS (power) "Ground"
text: NORA-MODULE

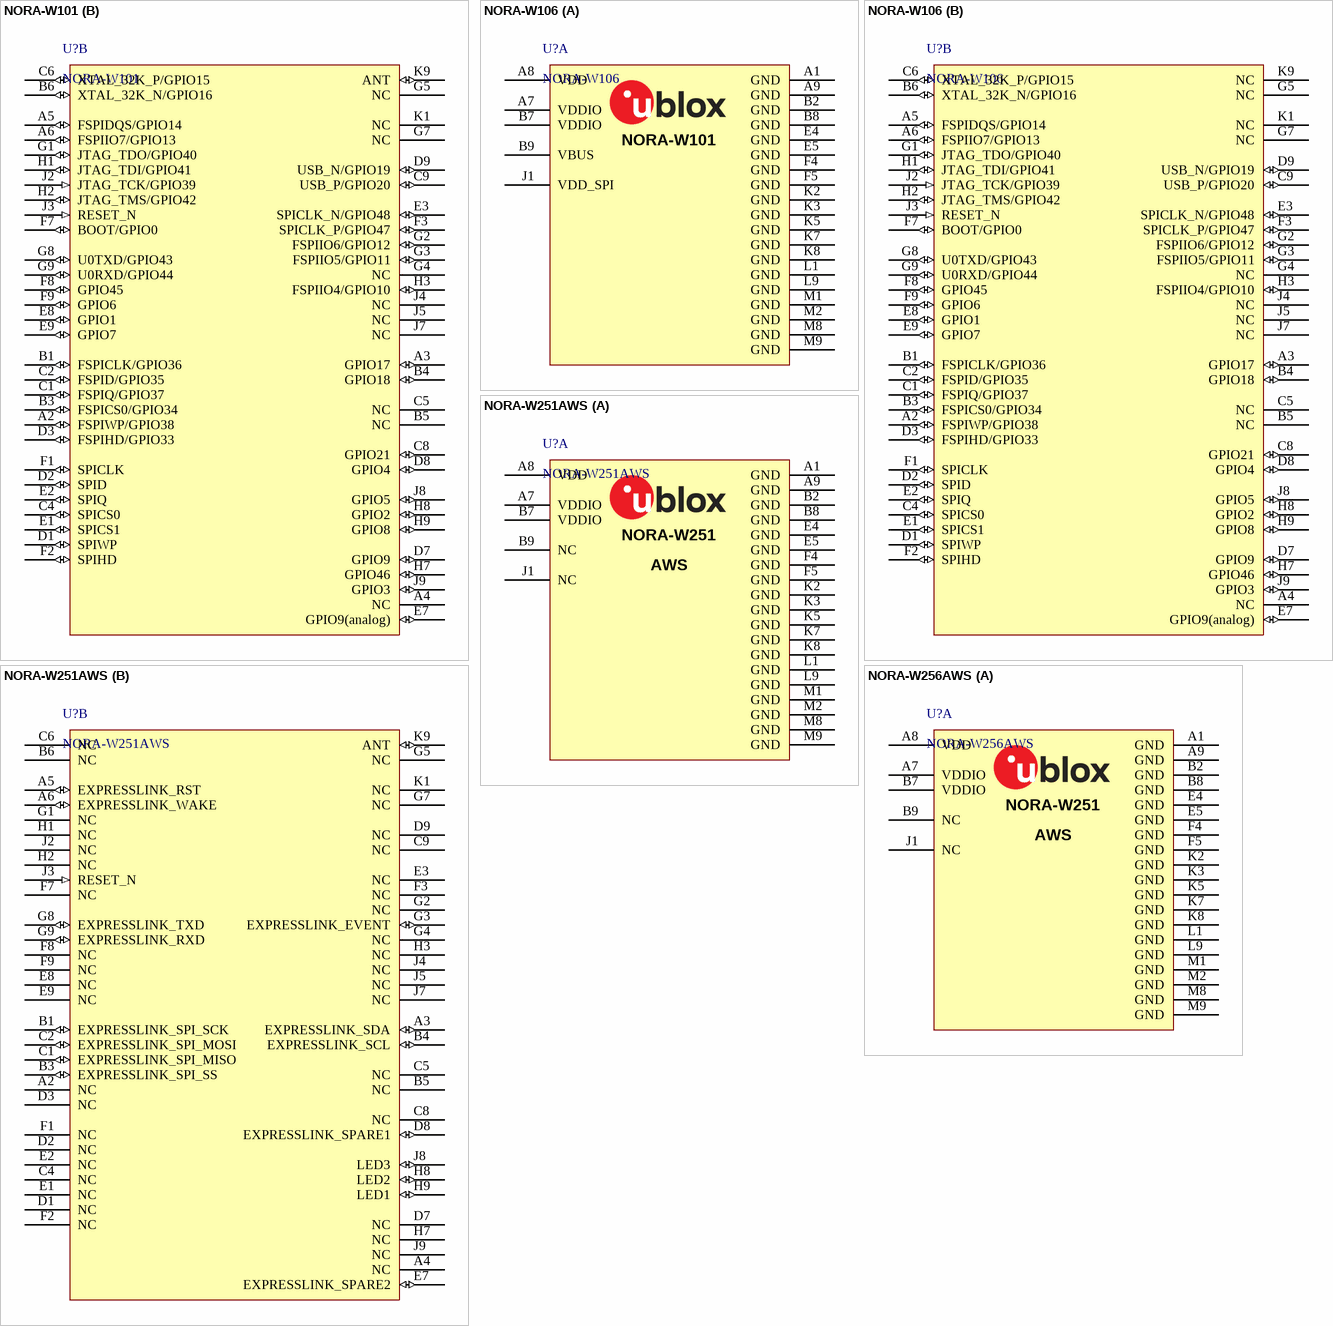
[diagram p17: symbols NORA-W101 to NORA-W256AWS]

## NORA-W101
designator U?
u-blox NORA-W101 Bluetooth LE and Wi-Fi module - antenna pin; Manufacturer P/N: NORA-B101-00B; Part Number: NORA-B101; Part Description: Stand-alone Bluetooth low energy module - dual-core; Body Size: 14.3 mm x 10.4 mm; Part Name: NORA-B101; Part_Type: Module; Manufacturer: u-blox; Height: 1.8 mm; Value: NORA-W101
footprint NORA_LGA82R_1430X1040X190_PIN (NORA LGA, 82pin ,1.1mm Pitch, 14.3mm x 10.4mm x 1.9mm)
part A pins: A1 GND (power), A7 VDDIO (power), A8 VDD (power), A9 GND (power), B2 GND (power), B7 VDDIO (power), B8 GND (power), B9 VBUS (power), E4 GND (power), E5 GND (power), F4 GND (power), F5 GND (power), J1 VDD_SPI (power), K2 GND (power), K3 GND (power), K5 GND (power), K7 GND (power), K8 GND (power), L1 GND (power), L9 GND (power), M1 GND (power), M2 GND (power), M8 GND (power), M9 GND (power)
part B pins: A2 FSPIWP/GPIO38 (io), A3 GPIO17 (io), A4 NC, A5 FSPIDQS/GPIO14 (io), A6 FSPIIO7/GPIO13 (io), B1 FSPICLK/GPIO36 (io), B3 FSPICS0/GPIO34 (io), B4 GPIO18 (io), B5 NC, B6 XTAL_32K_N/GPIO16 (io), C1 FSPIQ/GPIO37 (io), C2 FSPID/GPIO35 (io), C4 SPICS0 (io), C5 NC, C6 XTAL_32K_P/GPIO15 (io), C8 GPIO21 (io), C9 USB_P/GPIO20 (io), D1 SPIWP (io), D2 SPID (io), D3 FSPIHD/GPIO33 (io), D7 GPIO9 (io), D8 GPIO4 (io), D9 USB_N/GPIO19 (io), E1 SPICS1 (io), E2 SPIQ (io), E3 SPICLK_N/GPIO48 (io), E7 GPIO9(analog) (io), E8 GPIO1 (io), E9 GPIO7 (io), F1 SPICLK (io), F2 SPIHD (io), F3 SPICLK_P/GPIO47 (io), F7 BOOT/GPIO0 (io), F8 GPIO45 (io), F9 GPIO6 (io), G1 JTAG_TDO/GPIO40 (io), G2 FSPIIO6/GPIO12 (io), G3 FSPIIO5/GPIO11 (io), G4 NC, G5 NC, G7 NC, G8 U0TXD/GPIO43 (io), G9 U0RXD/GPIO44 (io), H1 JTAG_TDI/GPIO41 (io), H2 JTAG_TMS/GPIO42 (io), H3 FSPIIO4/GPIO10 (io), H7 GPIO46 (io), H8 GPIO2 (io), H9 GPIO8 (io), J2 JTAG_TCK/GPIO39 (in), J3 RESET_N (in), J4 NC, J5 NC, J7 NC, J8 GPIO5 (io), J9 GPIO3 (io), K1 NC, K9 ANT (io)

## NORA-W106
designator U?
u-blox NORA-W106 Bluetooth LE and Wi-Fi module - PCB antenna; Manufacturer P/N: NORA-B101-00B; Part Number: NORA-B101; Part Description: Stand-alone Bluetooth low energy module - dual-core; Body Size: 14.3 mm x 10.4 mm; Value: NORA-W101; Part Name: NORA-B101; Part_Type: Module; Manufacturer: u-blox; Height: 1.8 mm
footprint NORA_LGA82R_1430X1040X190_ANT (NORA LGA, 82pin ,1.1mm Pitch, 14.3mm x 10.4mm x 1.9mm)
part A pins: A1 GND (power), A7 VDDIO (power), A8 VDD (power), A9 GND (power), B2 GND (power), B7 VDDIO (power), B8 GND (power), B9 VBUS (power), E4 GND (power), E5 GND (power), F4 GND (power), F5 GND (power), J1 VDD_SPI (power), K2 GND (power), K3 GND (power), K5 GND (power), K7 GND (power), K8 GND (power), L1 GND (power), L9 GND (power), M1 GND (power), M2 GND (power), M8 GND (power), M9 GND (power)
part B pins: A2 FSPIWP/GPIO38 (io), A3 GPIO17 (io), A4 NC, A5 FSPIDQS/GPIO14 (io), A6 FSPIIO7/GPIO13 (io), B1 FSPICLK/GPIO36 (io), B3 FSPICS0/GPIO34 (io), B4 GPIO18 (io), B5 NC, B6 XTAL_32K_N/GPIO16 (io), C1 FSPIQ/GPIO37 (io), C2 FSPID/GPIO35 (io), C4 SPICS0 (io), C5 NC, C6 XTAL_32K_P/GPIO15 (io), C8 GPIO21 (io), C9 USB_P/GPIO20 (io), D1 SPIWP (io), D2 SPID (io), D3 FSPIHD/GPIO33 (io), D7 GPIO9 (io), D8 GPIO4 (io), D9 USB_N/GPIO19 (io), E1 SPICS1 (io), E2 SPIQ (io), E3 SPICLK_N/GPIO48 (io), E7 GPIO9(analog) (io), E8 GPIO1 (io), E9 GPIO7 (io), F1 SPICLK (io), F2 SPIHD (io), F3 SPICLK_P/GPIO47 (io), F7 BOOT/GPIO0 (io), F8 GPIO45 (io), F9 GPIO6 (io), G1 JTAG_TDO/GPIO40 (io), G2 FSPIIO6/GPIO12 (io), G3 FSPIIO5/GPIO11 (io), G4 NC, G5 NC, G7 NC, G8 U0TXD/GPIO43 (io), G9 U0RXD/GPIO44 (io), H1 JTAG_TDI/GPIO41 (io), H2 JTAG_TMS/GPIO42 (io), H3 FSPIIO4/GPIO10 (io), H7 GPIO46 (io), H8 GPIO2 (io), H9 GPIO8 (io), J2 JTAG_TCK/GPIO39 (in), J3 RESET_N (in), J4 NC, J5 NC, J7 NC, J8 GPIO5 (io), J9 GPIO3 (io), K1 NC, K9 NC

## NORA-W251AWS
designator U?
u-blox NORA-W251AWS Bluetooth LE and Wi-Fi module - antenna pin; Manufacturer P/N: NORA-B101-00B; Part Number: NORA-B101; Part Description: Stand-alone Bluetooth low energy module - dual-core; Body Size: 14.3 mm x 10.4 mm; Value: NORA-W101; Part Name: NORA-B101; Part_Type: Module; Manufacturer: u-blox; Height: 1.8 mm
footprint NORA_LGA82R_1430X1040X190_PIN (NORA LGA, 82pin ,1.1mm Pitch, 14.3mm x 10.4mm x 1.9mm)
part A pins: A1 GND (power), A7 VDDIO (power), A8 VDD (power), A9 GND (power), B2 GND (power), B7 VDDIO (power), B8 GND (power), B9 NC, E4 GND (power), E5 GND (power), F4 GND (power), F5 GND (power), J1 NC, K2 GND (power), K3 GND (power), K5 GND (power), K7 GND (power), K8 GND (power), L1 GND (power), L9 GND (power), M1 GND (power), M2 GND (power), M8 GND (power), M9 GND (power)
part B pins: A2 NC, A3 EXPRESSLINK_SDA (io), A4 NC, A5 EXPRESSLINK_RST (io), A6 EXPRESSLINK_WAKE (io), B1 EXPRESSLINK_SPI_SCK (io), B3 EXPRESSLINK_SPI_SS (io), B4 EXPRESSLINK_SCL (io), B5 NC, B6 NC, C1 EXPRESSLINK_SPI_MISO (io), C2 EXPRESSLINK_SPI_MOSI (io), C4 NC, C5 NC, C6 NC, C8 NC, C9 NC, D1 NC, D2 NC, D3 NC, D7 NC, D8 EXPRESSLINK_SPARE1 (io), D9 NC, E1 NC, E2 NC, E3 NC, E7 EXPRESSLINK_SPARE2 (io), E8 NC, E9 NC, F1 NC, F2 NC, F3 NC, F7 NC, F8 NC, F9 NC, G1 NC, G2 NC, G3 EXPRESSLINK_EVENT (io), G4 NC, G5 NC, G7 NC, G8 EXPRESSLINK_TXD (io), G9 EXPRESSLINK_RXD (io), H1 NC, H2 NC, H3 NC, H7 NC, H8 LED2 (io), H9 LED1 (io), J2 NC, J3 RESET_N (in), J4 NC, J5 NC, J7 NC, J8 LED3 (io), J9 NC, K1 NC, K9 ANT (io)
part A text: NORA-W251; AWS

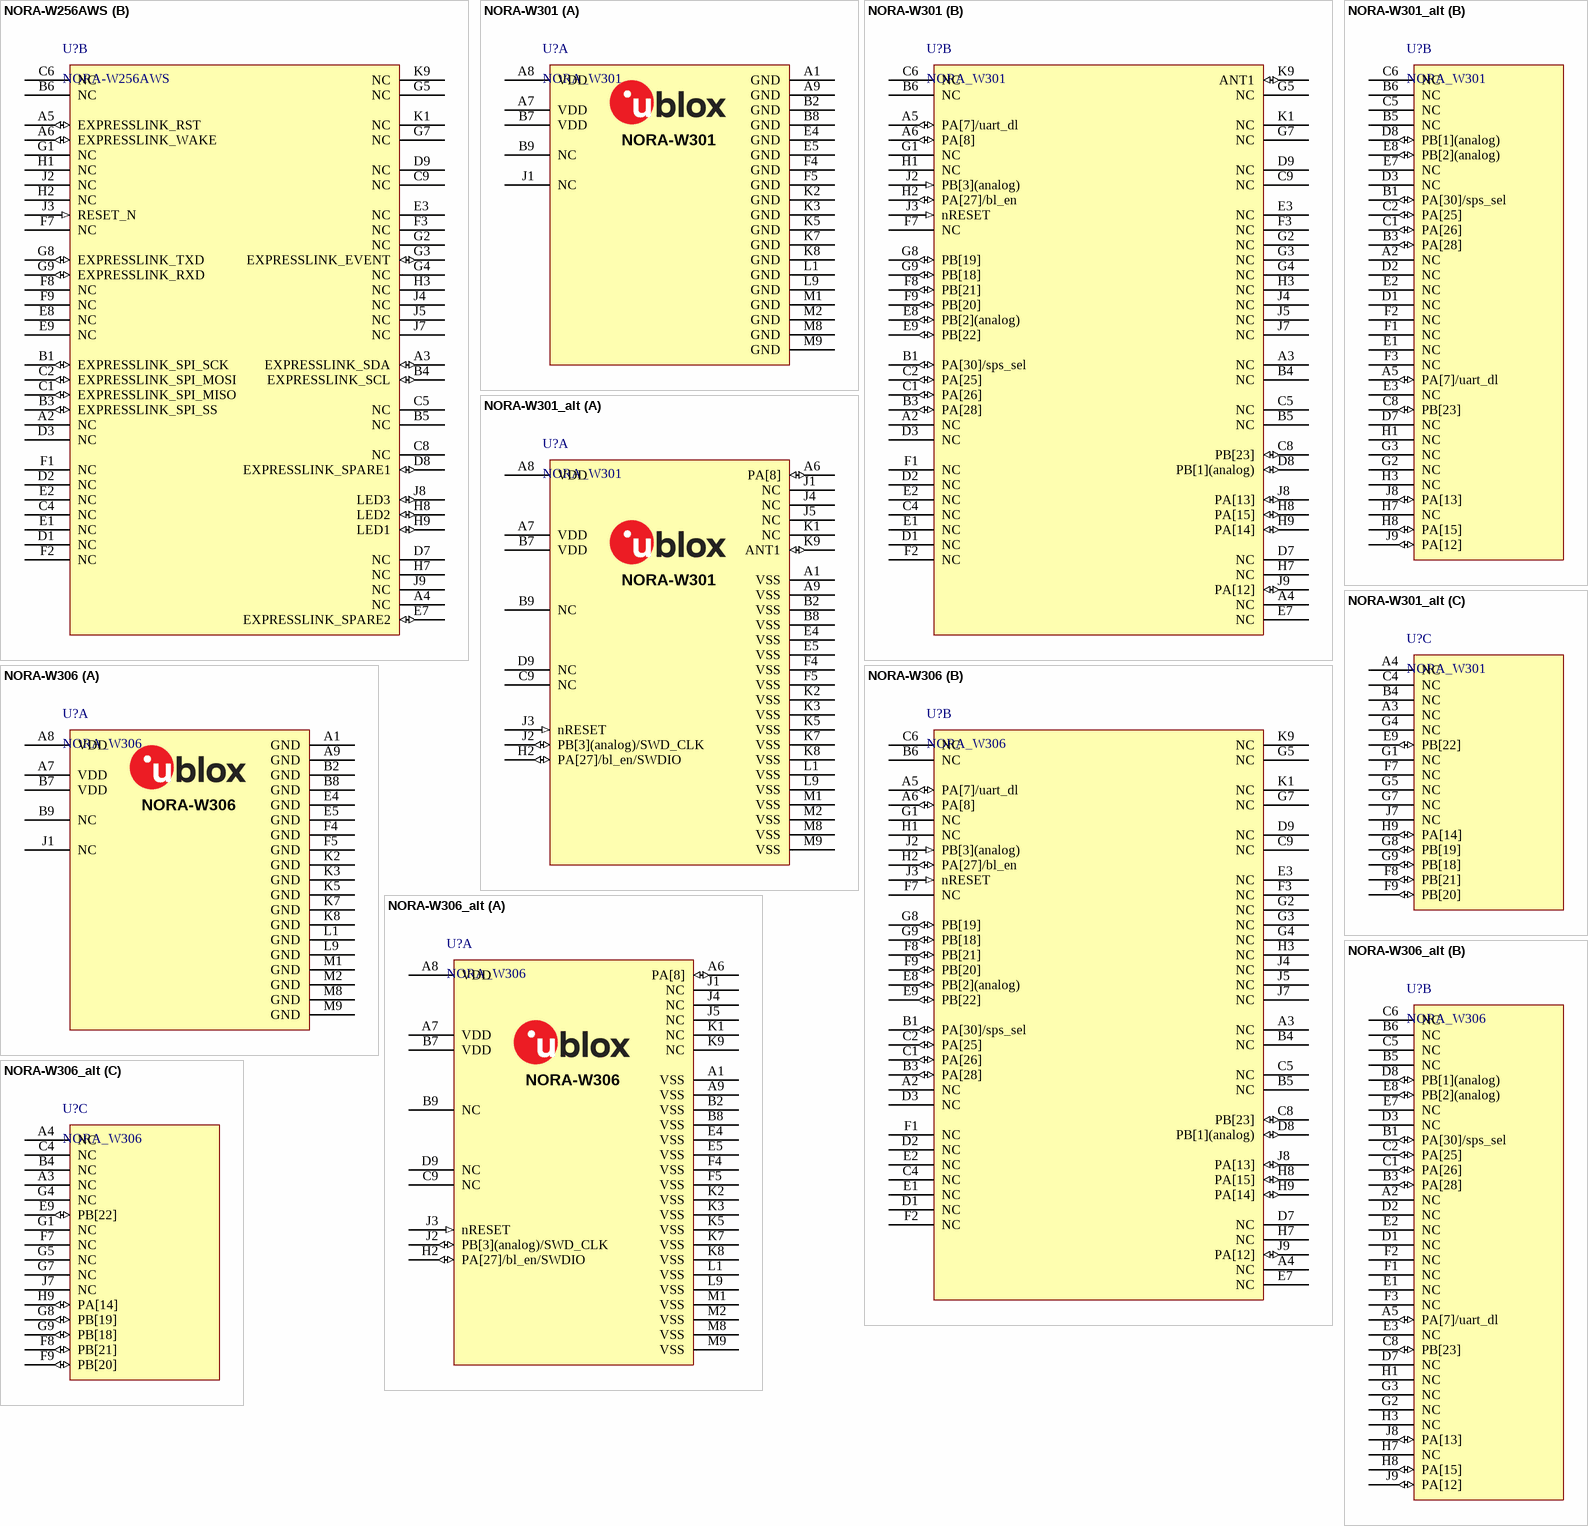
[diagram p18: symbols NORA-W256AWS to NORA-W306_alt]

## NORA-W256AWS
designator U?
u-blox NORA-W256AWS Bluetooth LE and Wi-Fi module - PCB antenna; Manufacturer P/N: NORA-B101-00B; Part Number: NORA-B101; Part Description: Stand-alone Bluetooth low energy module - dual-core; Body Size: 14.3 mm x 10.4 mm; Value: NORA-W101; Part Name: NORA-B101; Part_Type: Module; Manufacturer: u-blox; Height: 1.8 mm
footprint NORA_LGA82R_1430X1040X190_ANT (NORA LGA, 82pin ,1.1mm Pitch, 14.3mm x 10.4mm x 1.9mm)
part A pins: A1 GND (power), A7 VDDIO (power), A8 VDD (power), A9 GND (power), B2 GND (power), B7 VDDIO (power), B8 GND (power), B9 NC, E4 GND (power), E5 GND (power), F4 GND (power), F5 GND (power), J1 NC, K2 GND (power), K3 GND (power), K5 GND (power), K7 GND (power), K8 GND (power), L1 GND (power), L9 GND (power), M1 GND (power), M2 GND (power), M8 GND (power), M9 GND (power)
part B pins: A2 NC, A3 EXPRESSLINK_SDA (io), A4 NC, A5 EXPRESSLINK_RST (io), A6 EXPRESSLINK_WAKE (io), B1 EXPRESSLINK_SPI_SCK (io), B3 EXPRESSLINK_SPI_SS (io), B4 EXPRESSLINK_SCL (io), B5 NC, B6 NC, C1 EXPRESSLINK_SPI_MISO (io), C2 EXPRESSLINK_SPI_MOSI (io), C4 NC, C5 NC, C6 NC, C8 NC, C9 NC, D1 NC, D2 NC, D3 NC, D7 NC, D8 EXPRESSLINK_SPARE1 (io), D9 NC, E1 NC, E2 NC, E3 NC, E7 EXPRESSLINK_SPARE2 (io), E8 NC, E9 NC, F1 NC, F2 NC, F3 NC, F7 NC, F8 NC, F9 NC, G1 NC, G2 NC, G3 EXPRESSLINK_EVENT (io), G4 NC, G5 NC, G7 NC, G8 EXPRESSLINK_TXD (io), G9 EXPRESSLINK_RXD (io), H1 NC, H2 NC, H3 NC, H7 NC, H8 LED2 (io), H9 LED1 (io), J2 NC, J3 RESET_N (in), J4 NC, J5 NC, J7 NC, J8 LED3 (io), J9 NC, K1 NC, K9 NC
part A text: NORA-W251; AWS

## NORA-W301
designator U?, comment NORA_W301
u-blox NORA-W301 Bluetooth LE and Wi-Fi module - antenna pin; Manufacturer P/N: NORA-B101-00B; Part Number: NORA-B101; Part Description: Stand-alone Bluetooth low energy module - dual-core; Body Size: 14.3 mm x 10.4 mm; Value: NORA-W101; Part Name: NORA-B101; Part_Type: Module; Manufacturer: u-blox; Height: 1.8 mm
footprint NORA_LGA82R_1430X1040X190_W3_PIN (NORA LGA, 82pin ,1.1mm Pitch, 14.3mm x 10.4mm)
part A pins: A1 GND (power), A7 VDD (power), A8 VDD (power), A9 GND (power), B2 GND (power), B7 VDD (power), B8 GND (power), B9 NC, E4 GND (power), E5 GND (power), F4 GND (power), F5 GND (power), J1 NC, K2 GND (power), K3 GND (power), K5 GND (power), K7 GND (power), K8 GND (power), L1 GND (power), L9 GND (power), M1 GND (power), M2 GND (power), M8 GND (power), M9 GND (power)
part B pins: A2 NC, A3 NC, A4 NC, A5 PA[7]/uart_dl (io), A6 PA[8] (io), B1 PA[30]/sps_sel (io), B3 PA[28] (io), B4 NC, B5 NC, B6 NC, C1 PA[26] (io), C2 PA[25] (io), C4 NC, C5 NC, C6 NC, C8 PB[23] (io), C9 NC, D1 NC, D2 NC, D3 NC, D7 NC, D8 PB[1](analog) (io), D9 NC, E1 NC, E2 NC, E3 NC, E7 NC, E8 PB[2](analog) (io), E9 PB[22] (io), F1 NC, F2 NC, F3 NC, F7 NC, F8 PB[21] (io), F9 PB[20] (io), G1 NC, G2 NC, G3 NC, G4 NC, G5 NC, G7 NC, G8 PB[19] (io), G9 PB[18] (io), H1 NC, H2 PA[27]/bl_en (io), H3 NC, H7 NC, H8 PA[15] (io), H9 PA[14] (io), J2 PB[3](analog) (in), J3 nRESET (in), J4 NC, J5 NC, J7 NC, J8 PA[13] (io), J9 PA[12] (io), K1 NC, K9 ANT1 (io)

## NORA-W301_alt
designator U?, comment NORA_W301
u-blox NORA-W301 Bluetooth LE and Wi-Fi module - antenna pin; Manufacturer P/N: NORA-B101-00B; Part Number: NORA-B101; Part Description: Stand-alone Bluetooth low energy module - dual-core; Body Size: 14.3 mm x 10.4 mm; Value: NORA-W101; Part Name: NORA-B101; Part_Type: Module; Manufacturer: u-blox; Height: 1.8 mm
footprint NORA_LGA82R_1430X1040X190_W3_PIN (NORA LGA, 82pin ,1.1mm Pitch, 14.3mm x 10.4mm)
part A pins: A1 VSS (power), A6 PA[8] (io), A7 VDD (power), A8 VDD (power), A9 VSS (power), B2 VSS (power), B7 VDD (power), B8 VSS (power), B9 NC, C9 NC (hiz), D9 NC (hiz), E4 VSS (power), E5 VSS (power), F4 VSS (power), F5 VSS (power), H2 PA[27]/bl_en/SWDIO (io), J1 NC (hiz), J2 PB[3](analog)/SWD_CLK (io), J3 nRESET (in), J4 NC (hiz), J5 NC (hiz), K1 NC (hiz), K2 VSS (power), K3 VSS (power), K5 VSS (power), K7 VSS (power), K8 VSS (power), K9 ANT1 (io), L1 VSS (power), L9 VSS (power), M1 VSS (power), M2 VSS (power), M8 VSS (power), M9 VSS (power)
part B pins: A2 NC (hiz), A5 PA[7]/uart_dl (io), B1 PA[30]/sps_sel (io), B3 PA[28] (io), B5 NC (hiz), B6 NC (hiz), C1 PA[26] (io), C2 PA[25] (io), C5 NC (hiz), C6 NC (hiz), C8 PB[23] (io), D1 NC (hiz), D2 NC (hiz), D3 NC (hiz), D7 NC (hiz), D8 PB[1](analog) (io), E1 NC (hiz), E2 NC (hiz), E3 NC (hiz), E7 NC (hiz), E8 PB[2](analog) (io), F1 NC (hiz), F2 NC (hiz), F3 NC (hiz), G2 NC (hiz), G3 NC (hiz), H1 NC (hiz), H3 NC (hiz), H7 NC (hiz), H8 PA[15] (io), J8 PA[13] (io), J9 PA[12] (io)
part C pins: A3 NC (hiz), A4 NC (hiz), B4 NC (hiz), C4 NC (hiz), E9 PB[22] (io), F7 NC (hiz), F8 PB[21] (io), F9 PB[20] (io), G1 NC (hiz), G4 NC (hiz), G5 NC (hiz), G7 NC (hiz), G8 PB[19] (io), G9 PB[18] (io), H9 PA[14] (io), J7 NC (hiz)
part A text: NORA-W301

## NORA-W306
designator U?, comment NORA_W306
u-blox NORA-W306 Bluetooth LE and Wi-Fi module - antenna pin; Manufacturer P/N: NORA-B101-00B; Part Number: NORA-B101; Part Description: Stand-alone Bluetooth low energy module - dual-core; Body Size: 14.3 mm x 10.4 mm; Value: NORA-W101; Part Name: NORA-B101; Part_Type: Module; Manufacturer: u-blox; Height: 1.8 mm
footprint NORA_LGA82R_1430X1040X190_W3_ANT (NORA LGA, 82pin ,1.1mm Pitch, 14.3mm x 10.4mm)
part A pins: A1 GND (power), A7 VDD (power), A8 VDD (power), A9 GND (power), B2 GND (power), B7 VDD (power), B8 GND (power), B9 NC, E4 GND (power), E5 GND (power), F4 GND (power), F5 GND (power), J1 NC, K2 GND (power), K3 GND (power), K5 GND (power), K7 GND (power), K8 GND (power), L1 GND (power), L9 GND (power), M1 GND (power), M2 GND (power), M8 GND (power), M9 GND (power)
part B pins: A2 NC, A3 NC, A4 NC, A5 PA[7]/uart_dl (io), A6 PA[8] (io), B1 PA[30]/sps_sel (io), B3 PA[28] (io), B4 NC, B5 NC, B6 NC, C1 PA[26] (io), C2 PA[25] (io), C4 NC, C5 NC, C6 NC, C8 PB[23] (io), C9 NC, D1 NC, D2 NC, D3 NC, D7 NC, D8 PB[1](analog) (io), D9 NC, E1 NC, E2 NC, E3 NC, E7 NC, E8 PB[2](analog) (io), E9 PB[22] (io), F1 NC, F2 NC, F3 NC, F7 NC, F8 PB[21] (io), F9 PB[20] (io), G1 NC, G2 NC, G3 NC, G4 NC, G5 NC, G7 NC, G8 PB[19] (io), G9 PB[18] (io), H1 NC, H2 PA[27]/bl_en (io), H3 NC, H7 NC, H8 PA[15] (io), H9 PA[14] (io), J2 PB[3](analog) (in), J3 nRESET (in), J4 NC, J5 NC, J7 NC, J8 PA[13] (io), J9 PA[12] (io), K1 NC, K9 NC

## NORA-W306_alt
designator U?, comment NORA_W306
u-blox NORA-W306 Bluetooth LE and Wi-Fi module - antenna pin; Manufacturer P/N: NORA-B101-00B; Part Number: NORA-B101; Part Description: Stand-alone Bluetooth low energy module - dual-core; Body Size: 14.3 mm x 10.4 mm; Value: NORA-W101; Part Name: NORA-B101; Part_Type: Module; Manufacturer: u-blox; Height: 1.8 mm
footprint NORA_LGA82R_1430X1040X190_W3_ANT (NORA LGA, 82pin ,1.1mm Pitch, 14.3mm x 10.4mm)
part A pins: A1 VSS (power), A6 PA[8] (io), A7 VDD (power), A8 VDD (power), A9 VSS (power), B2 VSS (power), B7 VDD (power), B8 VSS (power), B9 NC, C9 NC (hiz), D9 NC (hiz), E4 VSS (power), E5 VSS (power), F4 VSS (power), F5 VSS (power), H2 PA[27]/bl_en/SWDIO (io), J1 NC (hiz), J2 PB[3](analog)/SWD_CLK (io), J3 nRESET (in), J4 NC (hiz), J5 NC (hiz), K1 NC (hiz), K2 VSS (power), K3 VSS (power), K5 VSS (power), K7 VSS (power), K8 VSS (power), K9 NC (hiz), L1 VSS (power), L9 VSS (power), M1 VSS (power), M2 VSS (power), M8 VSS (power), M9 VSS (power)
part B pins: A2 NC (hiz), A5 PA[7]/uart_dl (io), B1 PA[30]/sps_sel (io), B3 PA[28] (io), B5 NC (hiz), B6 NC (hiz), C1 PA[26] (io), C2 PA[25] (io), C5 NC (hiz), C6 NC (hiz), C8 PB[23] (io), D1 NC (hiz), D2 NC (hiz), D3 NC (hiz), D7 NC (hiz), D8 PB[1](analog) (io), E1 NC (hiz), E2 NC (hiz), E3 NC (hiz), E7 NC (hiz), E8 PB[2](analog) (io), F1 NC (hiz), F2 NC (hiz), F3 NC (hiz), G2 NC (hiz), G3 NC (hiz), H1 NC (hiz), H3 NC (hiz), H7 NC (hiz), H8 PA[15] (io), J8 PA[13] (io), J9 PA[12] (io)
part C pins: A3 NC (hiz), A4 NC (hiz), B4 NC (hiz), C4 NC (hiz), E9 PB[22] (io), F7 NC (hiz), F8 PB[21] (io), F9 PB[20] (io), G1 NC (hiz), G4 NC (hiz), G5 NC (hiz), G7 NC (hiz), G8 PB[19] (io), G9 PB[18] (io), H9 PA[14] (io), J7 NC (hiz)
part A text: NORA-W306

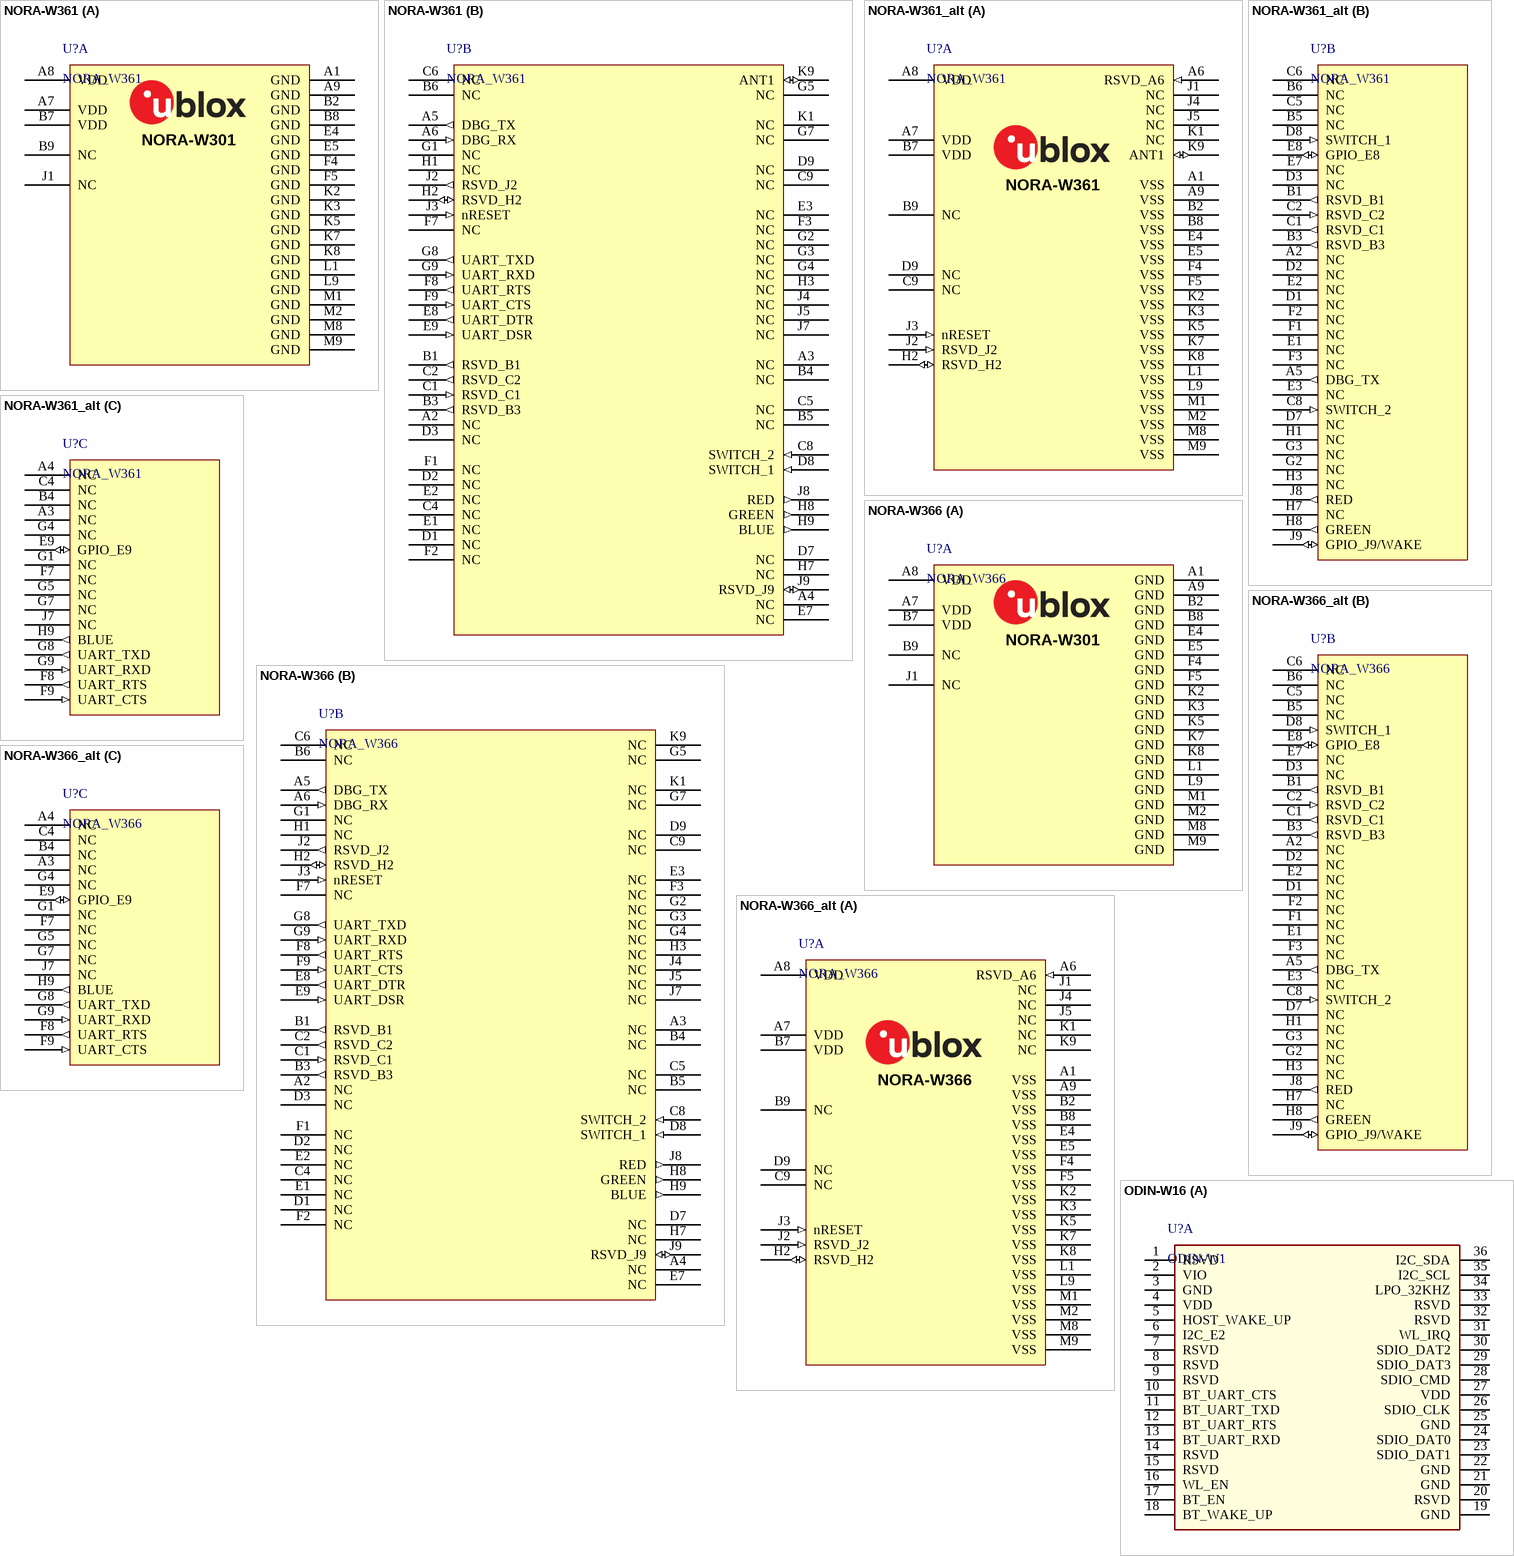
[diagram p19: symbols NORA-W361 to ODIN-W16]

## NORA-W361
designator U?, comment NORA_W361
u-blox NORA-W361 Bluetooth LE and Wi-Fi module - antenna pin; Manufacturer P/N: NORA-B101-00B; Part Number: NORA-B101; Part Description: Stand-alone Bluetooth low energy module - dual-core; Body Size: 14.3 mm x 10.4 mm; Value: NORA-W101; Part Name: NORA-B101; Part_Type: Module; Manufacturer: u-blox; Height: 1.8 mm
footprint NORA_LGA82R_1430X1040X190_W3_PIN (NORA LGA, 82pin ,1.1mm Pitch, 14.3mm x 10.4mm)
part A pins: A1 GND (power), A7 VDD (power), A8 VDD (power), A9 GND (power), B2 GND (power), B7 VDD (power), B8 GND (power), B9 NC, E4 GND (power), E5 GND (power), F4 GND (power), F5 GND (power), J1 NC, K2 GND (power), K3 GND (power), K5 GND (power), K7 GND (power), K8 GND (power), L1 GND (power), L9 GND (power), M1 GND (power), M2 GND (power), M8 GND (power), M9 GND (power)
part B pins: A2 NC, A3 NC, A4 NC, A5 DBG_TX (out), A6 DBG_RX (in), B1 RSVD_B1 (out), B3 RSVD_B3 (out), B4 NC, B5 NC, B6 NC, C1 RSVD_C1 (in), C2 RSVD_C2 (out), C4 NC, C5 NC, C6 NC, C8 SWITCH_2 (in), C9 NC, D1 NC, D2 NC, D3 NC, D7 NC, D8 SWITCH_1 (in), D9 NC, E1 NC, E2 NC, E3 NC, E7 NC, E8 UART_DTR (out), E9 UART_DSR (in), F1 NC, F2 NC, F3 NC, F7 NC, F8 UART_RTS (out), F9 UART_CTS (in), G1 NC, G2 NC, G3 NC, G4 NC, G5 NC, G7 NC, G8 UART_TXD (out), G9 UART_RXD (in), H1 NC, H2 RSVD_H2 (io), H3 NC, H7 NC, H8 GREEN (out), H9 BLUE (out), J2 RSVD_J2 (out), J3 nRESET (in), J4 NC, J5 NC, J7 NC, J8 RED (out), J9 RSVD_J9 (io), K1 NC, K9 ANT1 (io)
part A text: NORA-W301

## NORA-W361_alt
designator U?, comment NORA_W361
u-blox NORA-W361 Bluetooth LE and Wi-Fi module - antenna pin; Manufacturer P/N: NORA-B101-00B; Part Number: NORA-B101; Part Description: Stand-alone Bluetooth low energy module - dual-core; Body Size: 14.3 mm x 10.4 mm; Value: NORA-W101; Part Name: NORA-B101; Part_Type: Module; Manufacturer: u-blox; Height: 1.8 mm
footprint NORA_LGA82R_1430X1040X190_W3_PIN (NORA LGA, 82pin ,1.1mm Pitch, 14.3mm x 10.4mm)
part A pins: A1 VSS (power), A6 RSVD_A6 (in), A7 VDD (power), A8 VDD (power), A9 VSS (power), B2 VSS (power), B7 VDD (power), B8 VSS (power), B9 NC, C9 NC (hiz), D9 NC (hiz), E4 VSS (power), E5 VSS (power), F4 VSS (power), F5 VSS (power), H2 RSVD_H2 (io), J1 NC (hiz), J2 RSVD_J2 (in), J3 nRESET (in), J4 NC (hiz), J5 NC (hiz), K1 NC (hiz), K2 VSS (power), K3 VSS (power), K5 VSS (power), K7 VSS (power), K8 VSS (power), K9 ANT1 (io), L1 VSS (power), L9 VSS (power), M1 VSS (power), M2 VSS (power), M8 VSS (power), M9 VSS (power)
part B pins: A2 NC (hiz), A5 DBG_TX (out), B1 RSVD_B1 (out), B3 RSVD_B3 (out), B5 NC (hiz), B6 NC (hiz), C1 RSVD_C1 (out), C2 RSVD_C2 (in), C5 NC (hiz), C6 NC (hiz), C8 SWITCH_2 (in), D1 NC (hiz), D2 NC (hiz), D3 NC (hiz), D7 NC (hiz), D8 SWITCH_1 (in), E1 NC (hiz), E2 NC (hiz), E3 NC (hiz), E7 NC (hiz), E8 GPIO_E8 (io), F1 NC (hiz), F2 NC (hiz), F3 NC (hiz), G2 NC (hiz), G3 NC (hiz), H1 NC (hiz), H3 NC (hiz), H7 NC (hiz), H8 GREEN (out), J8 RED (out), J9 GPIO_J9/WAKE (io)
part C pins: A3 NC (hiz), A4 NC (hiz), B4 NC (hiz), C4 NC (hiz), E9 GPIO_E9 (io), F7 NC (hiz), F8 UART_RTS (out), F9 UART_CTS (in), G1 NC (hiz), G4 NC (hiz), G5 NC (hiz), G7 NC (hiz), G8 UART_TXD (out), G9 UART_RXD (in), H9 BLUE (out), J7 NC (hiz)
part A text: NORA-W361

## NORA-W366
designator U?, comment NORA_W366
u-blox NORA-W366 Bluetooth LE and Wi-Fi module - PCB antenna; Manufacturer P/N: NORA-B101-00B; Part Number: NORA-B101; Part Description: Stand-alone Bluetooth low energy module - dual-core; Body Size: 14.3 mm x 10.4 mm; Value: NORA-W101; Part Name: NORA-B101; Part_Type: Module; Manufacturer: u-blox; Height: 1.8 mm
footprint NORA_LGA82R_1430X1040X190_W3_ANT (NORA LGA, 82pin ,1.1mm Pitch, 14.3mm x 10.4mm)
part A pins: A1 GND (power), A7 VDD (power), A8 VDD (power), A9 GND (power), B2 GND (power), B7 VDD (power), B8 GND (power), B9 NC, E4 GND (power), E5 GND (power), F4 GND (power), F5 GND (power), J1 NC, K2 GND (power), K3 GND (power), K5 GND (power), K7 GND (power), K8 GND (power), L1 GND (power), L9 GND (power), M1 GND (power), M2 GND (power), M8 GND (power), M9 GND (power)
part B pins: A2 NC, A3 NC, A4 NC, A5 DBG_TX (out), A6 DBG_RX (in), B1 RSVD_B1 (out), B3 RSVD_B3 (out), B4 NC, B5 NC, B6 NC, C1 RSVD_C1 (in), C2 RSVD_C2 (out), C4 NC, C5 NC, C6 NC, C8 SWITCH_2 (in), C9 NC, D1 NC, D2 NC, D3 NC, D7 NC, D8 SWITCH_1 (in), D9 NC, E1 NC, E2 NC, E3 NC, E7 NC, E8 UART_DTR (out), E9 UART_DSR (in), F1 NC, F2 NC, F3 NC, F7 NC, F8 UART_RTS (out), F9 UART_CTS (in), G1 NC, G2 NC, G3 NC, G4 NC, G5 NC, G7 NC, G8 UART_TXD (out), G9 UART_RXD (in), H1 NC, H2 RSVD_H2 (io), H3 NC, H7 NC, H8 GREEN (out), H9 BLUE (out), J2 RSVD_J2 (out), J3 nRESET (in), J4 NC, J5 NC, J7 NC, J8 RED (out), J9 RSVD_J9 (io), K1 NC, K9 NC (hiz)
part A text: NORA-W301

## NORA-W366_alt
designator U?, comment NORA_W366
u-blox NORA-W361 Bluetooth LE and Wi-Fi module - antenna pin; Manufacturer P/N: NORA-B101-00B; Part Number: NORA-B101; Part Description: Stand-alone Bluetooth low energy module - dual-core; Body Size: 14.3 mm x 10.4 mm; Value: NORA-W101; Part Name: NORA-B101; Part_Type: Module; Manufacturer: u-blox; Height: 1.8 mm
footprint NORA_LGA82R_1430X1040X190_W3_ANT (NORA LGA, 82pin ,1.1mm Pitch, 14.3mm x 10.4mm)
part A pins: A1 VSS (power), A6 RSVD_A6 (in), A7 VDD (power), A8 VDD (power), A9 VSS (power), B2 VSS (power), B7 VDD (power), B8 VSS (power), B9 NC, C9 NC (hiz), D9 NC (hiz), E4 VSS (power), E5 VSS (power), F4 VSS (power), F5 VSS (power), H2 RSVD_H2 (io), J1 NC (hiz), J2 RSVD_J2 (in), J3 nRESET (in), J4 NC (hiz), J5 NC (hiz), K1 NC (hiz), K2 VSS (power), K3 VSS (power), K5 VSS (power), K7 VSS (power), K8 VSS (power), K9 NC (hiz), L1 VSS (power), L9 VSS (power), M1 VSS (power), M2 VSS (power), M8 VSS (power), M9 VSS (power)
part B pins: A2 NC (hiz), A5 DBG_TX (out), B1 RSVD_B1 (out), B3 RSVD_B3 (out), B5 NC (hiz), B6 NC (hiz), C1 RSVD_C1 (out), C2 RSVD_C2 (in), C5 NC (hiz), C6 NC (hiz), C8 SWITCH_2 (in), D1 NC (hiz), D2 NC (hiz), D3 NC (hiz), D7 NC (hiz), D8 SWITCH_1 (in), E1 NC (hiz), E2 NC (hiz), E3 NC (hiz), E7 NC (hiz), E8 GPIO_E8 (io), F1 NC (hiz), F2 NC (hiz), F3 NC (hiz), G2 NC (hiz), G3 NC (hiz), H1 NC (hiz), H3 NC (hiz), H7 NC (hiz), H8 GREEN (out), J8 RED (out), J9 GPIO_J9/WAKE (io)
part C pins: A3 NC (hiz), A4 NC (hiz), B4 NC (hiz), C4 NC (hiz), E9 GPIO_E9 (io), F7 NC (hiz), F8 UART_RTS (out), F9 UART_CTS (in), G1 NC (hiz), G4 NC (hiz), G5 NC (hiz), G7 NC (hiz), G8 UART_TXD (out), G9 UART_RXD (in), H9 BLUE (out), J7 NC (hiz)
part A text: NORA-W366

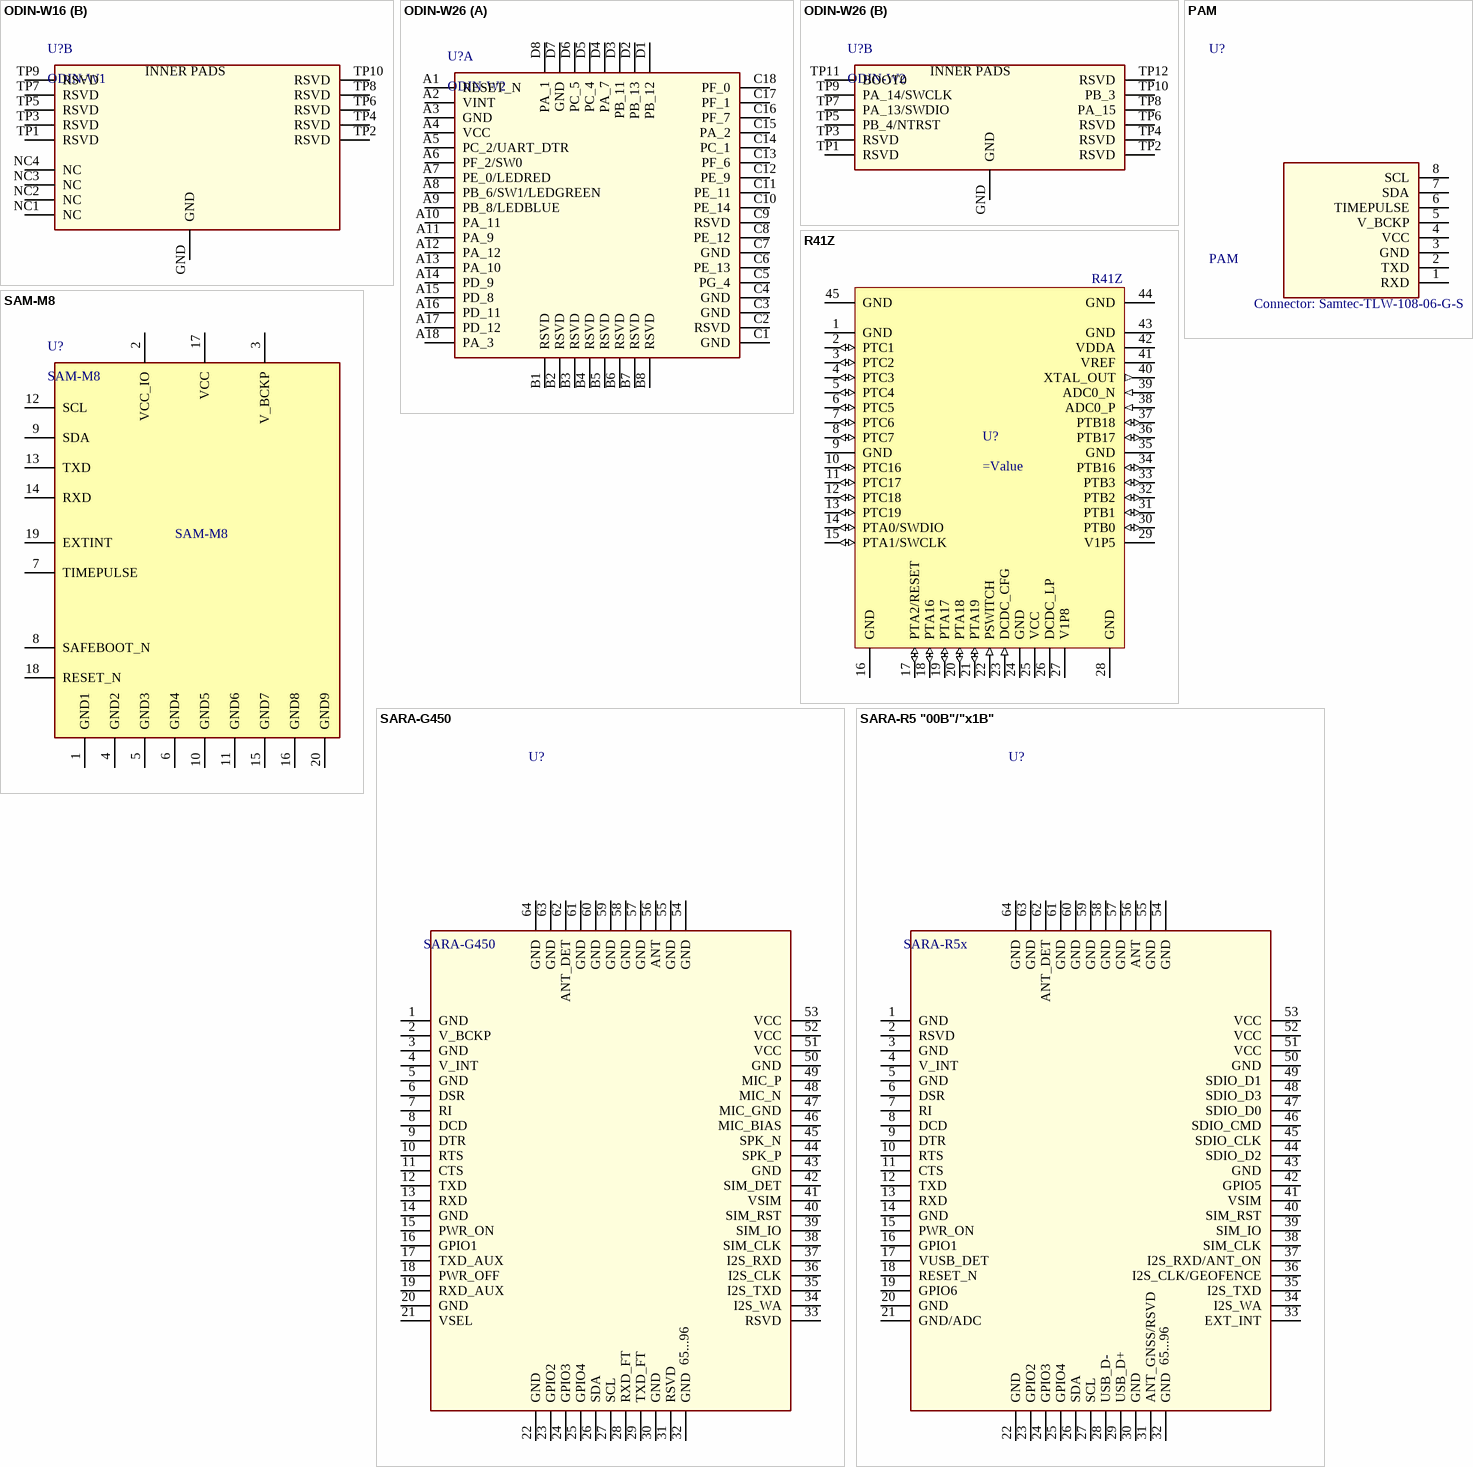
[diagram p20: symbols ODIN-W16 to SARA-R5 "00B"/"x1B"]

## ODIN-W16
designator U?, comment ODIN-W1
u-blox ODIN-W16 host-based multiradio module with Wi-Fi and Bluetooth; Manufacturer: u-blox; Part Description: Host-based multiradio module with Wi-Fi and Bluetooth; Value: ODIN-W1
footprint ODIN-W16 (ODIN-W16 WiFi/BT module)
part A pins: 1 RSVD, 2 VIO, 3 GND, 4 VDD, 5 HOST_WAKE_UP, 6 I2C_E2, 7 RSVD, 8 RSVD, 9 RSVD, 10 BT_UART_CTS, 11 BT_UART_TXD, 12 BT_UART_RTS, 13 BT_UART_RXD, 14 RSVD, 15 RSVD, 16 WL_EN, 17 BT_EN, 18 BT_WAKE_UP, 19 GND, 20 RSVD, 21 GND, 22 GND, 23 SDIO_DAT1, 24 SDIO_DAT0, 25 GND, 26 SDIO_CLK, 27 VDD, 28 SDIO_CMD, 29 SDIO_DAT3, 30 SDIO_DAT2, 31 WL_IRQ, 32 RSVD, 33 RSVD, 34 LPO_32KHZ, 35 I2C_SCL, 36 I2C_SDA
part B pins: GND, NC1 NC, NC2 NC, NC3 NC, NC4 NC, TP1 RSVD, TP2 RSVD, TP3 RSVD, TP4 RSVD, TP5 RSVD, TP6 RSVD, TP7 RSVD, TP8 RSVD, TP9 RSVD, TP10 RSVD
1 alternate drawing of the same symbol
part B text: INNER PADS